# Altium schematic symbol library SparkFun-Retired.SCHLIB: 389 symbols (part 1 of 4)
Pins are listed as number, name and electrical type; pins without a type are passive.

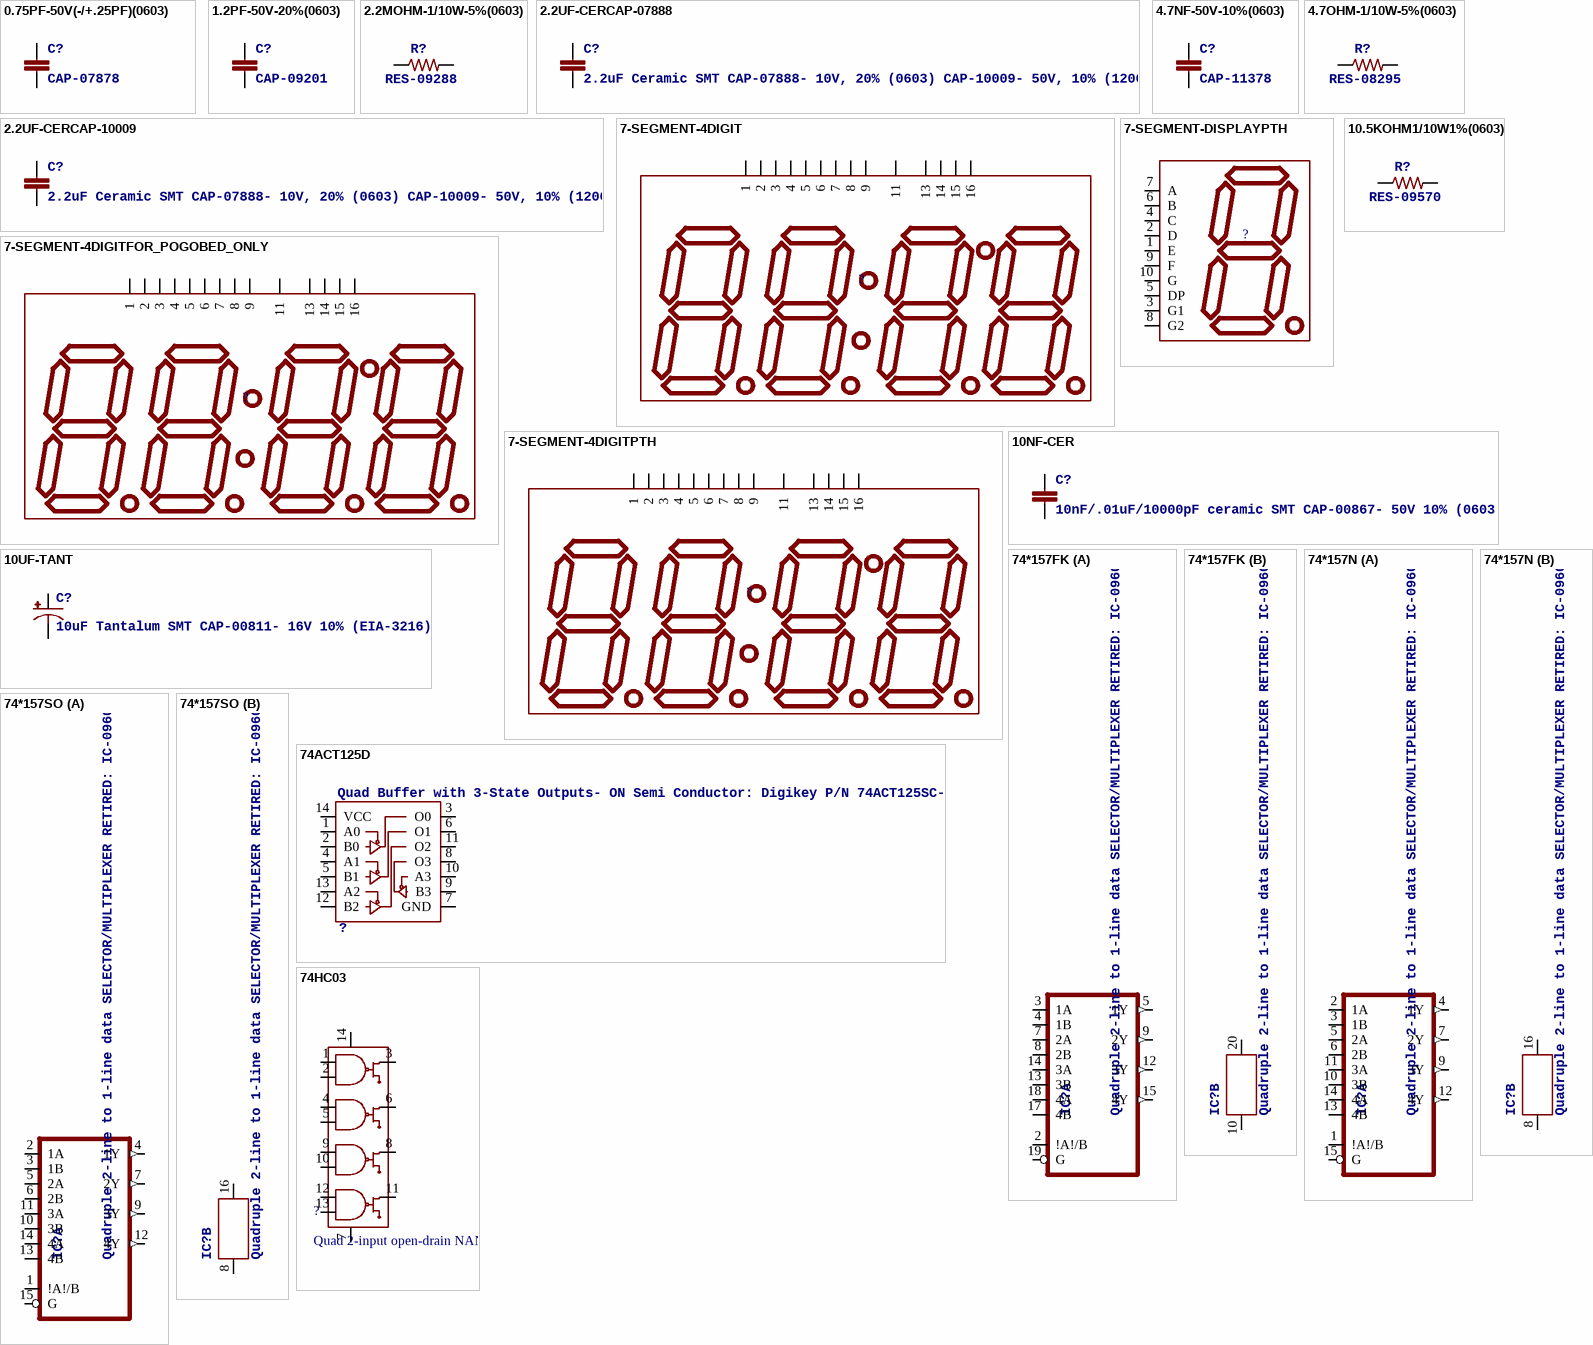
[diagram p0: symbols 0.75PF-50V(-/+.25PF)(0603) to 74HC03]

## 0.75PF-50V(-/+.25PF)(0603)
designator C?, comment CAP-07878
PROD_ID: CAP-07878
footprint 0603
pins: 1, 2

## 1.2PF-50V-20%(0603)
designator C?, comment CAP-09201
PROD_ID: CAP-09201
footprint 0603
pins: 1, 2

## 2.2MOHM-1/10W-5%(0603)
designator R?, comment RES-09288
PROD_ID: RES-09288
footprint 0603
pins: 1, 2

## 2.2UF-CERCAP-07888
designator C?, comment 2.2uF Ceramic SMT CAP-07888- 10V, 20% (0603) CAP-10009- 50V, 10% (1206)
PROD_ID: CAP-07888
footprint 0402-CAP
pins: 1, 2

## 2.2UF-CERCAP-10009
designator C?, comment 2.2uF Ceramic SMT CAP-07888- 10V, 20% (0603) CAP-10009- 50V, 10% (1206)
PROD_ID: CAP-10009
footprint 1206
pins: 1, 2

## 4.7NF-50V-10%(0603)
designator C?, comment CAP-11378
PROD_ID: CAP-11378
footprint 0603
pins: 1, 2

## 4.7OHM-1/10W-5%(0603)
designator R?, comment RES-08295
PROD_ID: RES-08295
footprint 0603
pins: 1, 2

## 7-SEGMENT-4DIGIT
designator ?
footprint 7-SEGMENT-4DIGIT-YOUNGSUN
pins: 1, 2, 3, 4, 5, 6, 7, 8, 9, 11, 13, 14, 15, 16

## 7-SEGMENT-4DIGITFOR_POGOBED_ONLY
designator ?
footprint 7-SEGMENT-4DIGIT_LONGPADS_FOR_POGOBED
pins: 1, 2, 3, 4, 5, 6, 7, 8, 9, 11, 13, 14, 15, 16

## 7-SEGMENT-4DIGITPTH
designator ?
footprint 7-SEGMENT-4DIGIT
pins: 1, 2, 3, 4, 5, 6, 7, 8, 9, 11, 13, 14, 15, 16

## 7-SEGMENT-DISPLAYPTH
designator ?
footprint 7-SEGMENT-DISPLAY
pins: 1 E, 2 D, 3 G1, 4 C, 5 DP, 6 B, 7 A, 8 G2, 9 F, 10 G

## 10.5KOHM1/10W1%(0603)
designator R?, comment RES-09570
PROD_ID: RES-09570
footprint 0603
pins: 1, 2

## 10NF-CER
designator C?, comment 10nF/.01uF/10000pF ceramic SMT CAP-00867- 50V 10% (0603)
PROD_ID: CAP-00867
footprint 0402-CAP
pins: 1, 2

## 10UF-TANT
designator C?, comment 10uF Tantalum SMT CAP-00811- 16V 10% (EIA-3216)
PROD_ID: CAP-00811
footprint EIA3216
pins: A +, C -

## 74*157FK
designator IC?, comment Quadruple 2-line to 1-line data SELECTOR/MULTIPLEXER RETIRED: IC-09602
footprint LCC20
part A pins: 2 !A!/B, 3 1A, 4 1B, 5 1Y (out), 7 2A, 8 2B, 9 2Y (out), 12 3Y (out), 13 3B, 14 3A, 15 4Y (out), 17 4B, 18 4A, 19 G
part B pins: 10 P$V-, 20 P$V+

## 74*157N
designator IC?, comment Quadruple 2-line to 1-line data SELECTOR/MULTIPLEXER RETIRED: IC-09602
footprint DIP16
part A pins: 1 !A!/B, 2 1A, 3 1B, 4 1Y (out), 5 2A, 6 2B, 7 2Y (out), 9 3Y (out), 10 3B, 11 3A, 12 4Y (out), 13 4B, 14 4A, 15 G
part B pins: 8 P$V-, 16 P$V+

## 74*157SO
designator IC?, comment Quadruple 2-line to 1-line data SELECTOR/MULTIPLEXER RETIRED: IC-09602
footprint SO16
part A pins: 1 !A!/B, 2 1A, 3 1B, 4 1Y (out), 5 2A, 6 2B, 7 2Y (out), 9 3Y (out), 10 3B, 11 3A, 12 4Y (out), 13 4B, 14 4A, 15 G
part B pins: 8 P$V-, 16 P$V+

## 74ACT125D
designator ?, comment Quad Buffer with 3-State Outputs- ON Semi Conductor: Digikey P/N 74ACT125SC-ND
footprint SO014
pins: 1 A0, 2 B0, 3 O0, 4 A1, 5 B1, 6 O1, 7 GND, 8 O3, 9 B3, 10 A3, 11 O2, 12 B2, 13 A2, 14 VCC

## 74HC03
designator ?, comment Quad 2-input open-drain NAND 2-5V operating voltage Some part numbers may include a clamping diode from OD output to VCC; check datasheet for specific part. We use an NXP part which does NOT have a clamping diode.   Doesn't seem to be in inventory anywhere.  We have nands but not open-drain
footprint TSSOP14
pins: 1 A1, 2 B1, 3 Y1, 4 A2, 5 B2, 6 Y2, 7 VSS, 8 Y3, 9 A3, 10 B3, 11 Y4, 12 A4, 13 B4, 14 VCC

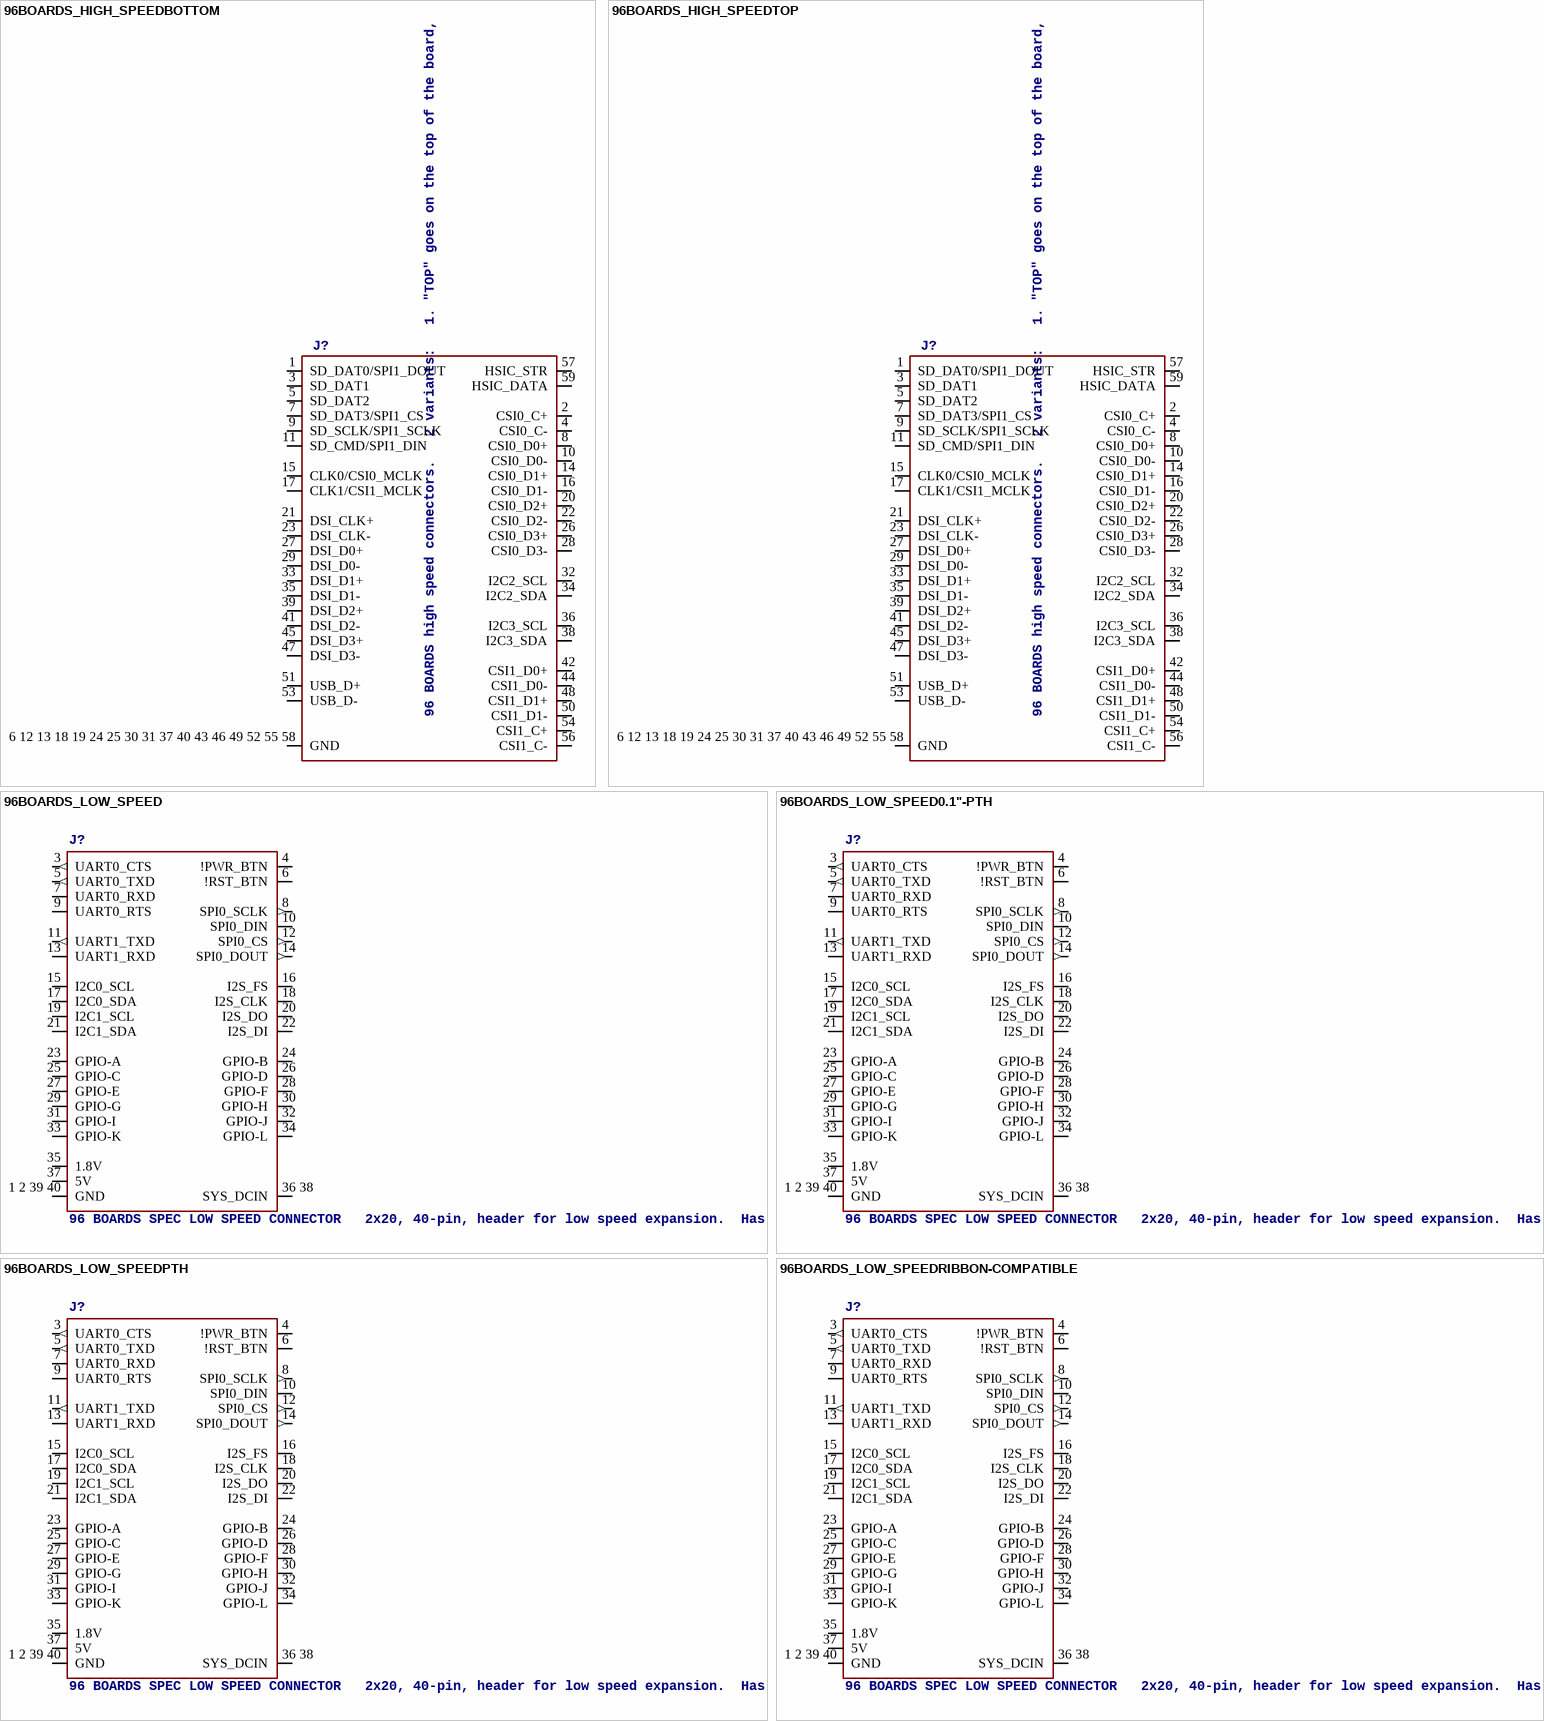
[diagram p1: symbols 96BOARDS_HIGH_SPEEDBOTTOM to 96BOARDS_LOW_SPEEDRIBBON-COMPATIBLE]

## 96BOARDS_HIGH_SPEEDBOTTOM
designator J?, comment 96 BOARDS high speed connectors.   2 variants:   1. "TOP" goes on the top of the board, called a "Receptacale" in the parlance.  Candidate parts would be FCI/Bergquist 61082-061409LF   2. "BOTTOM" goes on the bottom of a board.  Candidate parts would be FCI 61083-063409LF for 7mm board-to-board clearance, or  61083-064409LF for 8mm clearance.   If you're placing one on the bottom of a board, take care to mind the pin-1 orientation.
footprint 2X30-BERGSTAK-0.8MM-F
pins: 1 SD_DAT0/SPI1_DOUT, 2 CSI0_C+, 3 SD_DAT1, 4 CSI0_C-, 5 SD_DAT2, 6 12 13 18 19 24 25 30 31 37 40 43 46 49 52 55 58 GND, 7 SD_DAT3/SPI1_CS, 8 CSI0_D0+, 9 SD_SCLK/SPI1_SCLK, 10 CSI0_D0-, 11 SD_CMD/SPI1_DIN, 14 CSI0_D1+, 15 CLK0/CSI0_MCLK, 16 CSI0_D1-, 17 CLK1/CSI1_MCLK, 20 CSI0_D2+, 21 DSI_CLK+, 22 CSI0_D2-, 23 DSI_CLK-, 26 CSI0_D3+, 27 DSI_D0+, 28 CSI0_D3-, 29 DSI_D0-, 32 I2C2_SCL, 33 DSI_D1+, 34 I2C2_SDA, 35 DSI_D1-, 36 I2C3_SCL, 38 I2C3_SDA, 39 DSI_D2+, 41 DSI_D2-, 42 CSI1_D0+, 44 CSI1_D0-, 45 DSI_D3+, 47 DSI_D3-, 48 CSI1_D1+, 50 CSI1_D1-, 51 USB_D+, 53 USB_D-, 54 CSI1_C+, 56 CSI1_C-, 57 HSIC_STR, 59 HSIC_DATA

## 96BOARDS_HIGH_SPEEDTOP
designator J?, comment 96 BOARDS high speed connectors.   2 variants:   1. "TOP" goes on the top of the board, called a "Receptacale" in the parlance.  Candidate parts would be FCI/Bergquist 61082-061409LF   2. "BOTTOM" goes on the bottom of a board.  Candidate parts would be FCI 61083-063409LF for 7mm board-to-board clearance, or  61083-064409LF for 8mm clearance.   If you're placing one on the bottom of a board, take care to mind the pin-1 orientation.
footprint 2X30-BERGSTAK-0.8MM-M
pins: 1 SD_DAT0/SPI1_DOUT, 2 CSI0_C+, 3 SD_DAT1, 4 CSI0_C-, 5 SD_DAT2, 6 12 13 18 19 24 25 30 31 37 40 43 46 49 52 55 58 GND, 7 SD_DAT3/SPI1_CS, 8 CSI0_D0+, 9 SD_SCLK/SPI1_SCLK, 10 CSI0_D0-, 11 SD_CMD/SPI1_DIN, 14 CSI0_D1+, 15 CLK0/CSI0_MCLK, 16 CSI0_D1-, 17 CLK1/CSI1_MCLK, 20 CSI0_D2+, 21 DSI_CLK+, 22 CSI0_D2-, 23 DSI_CLK-, 26 CSI0_D3+, 27 DSI_D0+, 28 CSI0_D3-, 29 DSI_D0-, 32 I2C2_SCL, 33 DSI_D1+, 34 I2C2_SDA, 35 DSI_D1-, 36 I2C3_SCL, 38 I2C3_SDA, 39 DSI_D2+, 41 DSI_D2-, 42 CSI1_D0+, 44 CSI1_D0-, 45 DSI_D3+, 47 DSI_D3-, 48 CSI1_D1+, 50 CSI1_D1-, 51 USB_D+, 53 USB_D-, 54 CSI1_C+, 56 CSI1_C-, 57 HSIC_STR, 59 HSIC_DATA

## 96BOARDS_LOW_SPEED
designator J?, comment 96 BOARDS SPEC LOW SPEED CONNECTOR   2x20, 40-pin, header for low speed expansion.  Has UARTS, I2C, I2S, SPI and GPIO.  * 2mm-pitch variant interfaces directly with the header on a 96-boards-compliant board. * 0.1-pitch version is for applications where the header has been translated to the larger, more available 0.1" 2x20 connector.  For more details, see the spec at https://www.96boards.org
footprint 2X20-2MM-SHROUDED-RA-PTH
pins: 1 2 39 40 GND (power), 3 UART0_CTS (out), 4 !PWR_BTN, 5 UART0_TXD (out), 6 !RST_BTN, 7 UART0_RXD, 8 SPI0_SCLK (out), 9 UART0_RTS, 10 SPI0_DIN, 11 UART1_TXD (out), 12 SPI0_CS (out), 13 UART1_RXD, 14 SPI0_DOUT (out), 15 I2C0_SCL, 16 I2S_FS, 17 I2C0_SDA, 18 I2S_CLK, 19 I2C1_SCL, 20 I2S_DO, 21 I2C1_SDA, 22 I2S_DI, 23 GPIO-A, 24 GPIO-B, 25 GPIO-C, 26 GPIO-D, 27 GPIO-E, 28 GPIO-F, 29 GPIO-G, 30 GPIO-H, 31 GPIO-I, 32 GPIO-J, 33 GPIO-K, 34 GPIO-L, 35 1.8V (power), 36 38 SYS_DCIN (power), 37 5V (power)

## 96BOARDS_LOW_SPEED0.1"-PTH
designator J?, comment 96 BOARDS SPEC LOW SPEED CONNECTOR   2x20, 40-pin, header for low speed expansion.  Has UARTS, I2C, I2S, SPI and GPIO.  * 2mm-pitch variant interfaces directly with the header on a 96-boards-compliant board. * 0.1-pitch version is for applications where the header has been translated to the larger, more available 0.1" 2x20 connector.  For more details, see the spec at https://www.96boards.org
footprint 2X20-SHROUDED
pins: 1 2 39 40 GND (power), 3 UART0_CTS (out), 4 !PWR_BTN, 5 UART0_TXD (out), 6 !RST_BTN, 7 UART0_RXD, 8 SPI0_SCLK (out), 9 UART0_RTS, 10 SPI0_DIN, 11 UART1_TXD (out), 12 SPI0_CS (out), 13 UART1_RXD, 14 SPI0_DOUT (out), 15 I2C0_SCL, 16 I2S_FS, 17 I2C0_SDA, 18 I2S_CLK, 19 I2C1_SCL, 20 I2S_DO, 21 I2C1_SDA, 22 I2S_DI, 23 GPIO-A, 24 GPIO-B, 25 GPIO-C, 26 GPIO-D, 27 GPIO-E, 28 GPIO-F, 29 GPIO-G, 30 GPIO-H, 31 GPIO-I, 32 GPIO-J, 33 GPIO-K, 34 GPIO-L, 35 1.8V (power), 36 38 SYS_DCIN (power), 37 5V (power)

## 96BOARDS_LOW_SPEEDPTH
designator J?, comment 96 BOARDS SPEC LOW SPEED CONNECTOR   2x20, 40-pin, header for low speed expansion.  Has UARTS, I2C, I2S, SPI and GPIO.  * 2mm-pitch variant interfaces directly with the header on a 96-boards-compliant board. * 0.1-pitch version is for applications where the header has been translated to the larger, more available 0.1" 2x20 connector.  For more details, see the spec at https://www.96boards.org
footprint 2X20-2MM-SHROUDED-PTH
pins: 1 2 39 40 GND (power), 3 UART0_CTS (out), 4 !PWR_BTN, 5 UART0_TXD (out), 6 !RST_BTN, 7 UART0_RXD, 8 SPI0_SCLK (out), 9 UART0_RTS, 10 SPI0_DIN, 11 UART1_TXD (out), 12 SPI0_CS (out), 13 UART1_RXD, 14 SPI0_DOUT (out), 15 I2C0_SCL, 16 I2S_FS, 17 I2C0_SDA, 18 I2S_CLK, 19 I2C1_SCL, 20 I2S_DO, 21 I2C1_SDA, 22 I2S_DI, 23 GPIO-A, 24 GPIO-B, 25 GPIO-C, 26 GPIO-D, 27 GPIO-E, 28 GPIO-F, 29 GPIO-G, 30 GPIO-H, 31 GPIO-I, 32 GPIO-J, 33 GPIO-K, 34 GPIO-L, 35 1.8V (power), 36 38 SYS_DCIN (power), 37 5V (power)

## 96BOARDS_LOW_SPEEDRIBBON-COMPATIBLE
designator J?, comment 96 BOARDS SPEC LOW SPEED CONNECTOR   2x20, 40-pin, header for low speed expansion.  Has UARTS, I2C, I2S, SPI and GPIO.  * 2mm-pitch variant interfaces directly with the header on a 96-boards-compliant board. * 0.1-pitch version is for applications where the header has been translated to the larger, more available 0.1" 2x20 connector.  For more details, see the spec at https://www.96boards.org
footprint 2X20-2MM-SHROUDED-SMT-RIBBON-M
pins: 1 2 39 40 GND (power), 3 UART0_CTS (out), 4 !PWR_BTN, 5 UART0_TXD (out), 6 !RST_BTN, 7 UART0_RXD, 8 SPI0_SCLK (out), 9 UART0_RTS, 10 SPI0_DIN, 11 UART1_TXD (out), 12 SPI0_CS (out), 13 UART1_RXD, 14 SPI0_DOUT (out), 15 I2C0_SCL, 16 I2S_FS, 17 I2C0_SDA, 18 I2S_CLK, 19 I2C1_SCL, 20 I2S_DO, 21 I2C1_SDA, 22 I2S_DI, 23 GPIO-A, 24 GPIO-B, 25 GPIO-C, 26 GPIO-D, 27 GPIO-E, 28 GPIO-F, 29 GPIO-G, 30 GPIO-H, 31 GPIO-I, 32 GPIO-J, 33 GPIO-K, 34 GPIO-L, 35 1.8V (power), 36 38 SYS_DCIN (power), 37 5V (power)

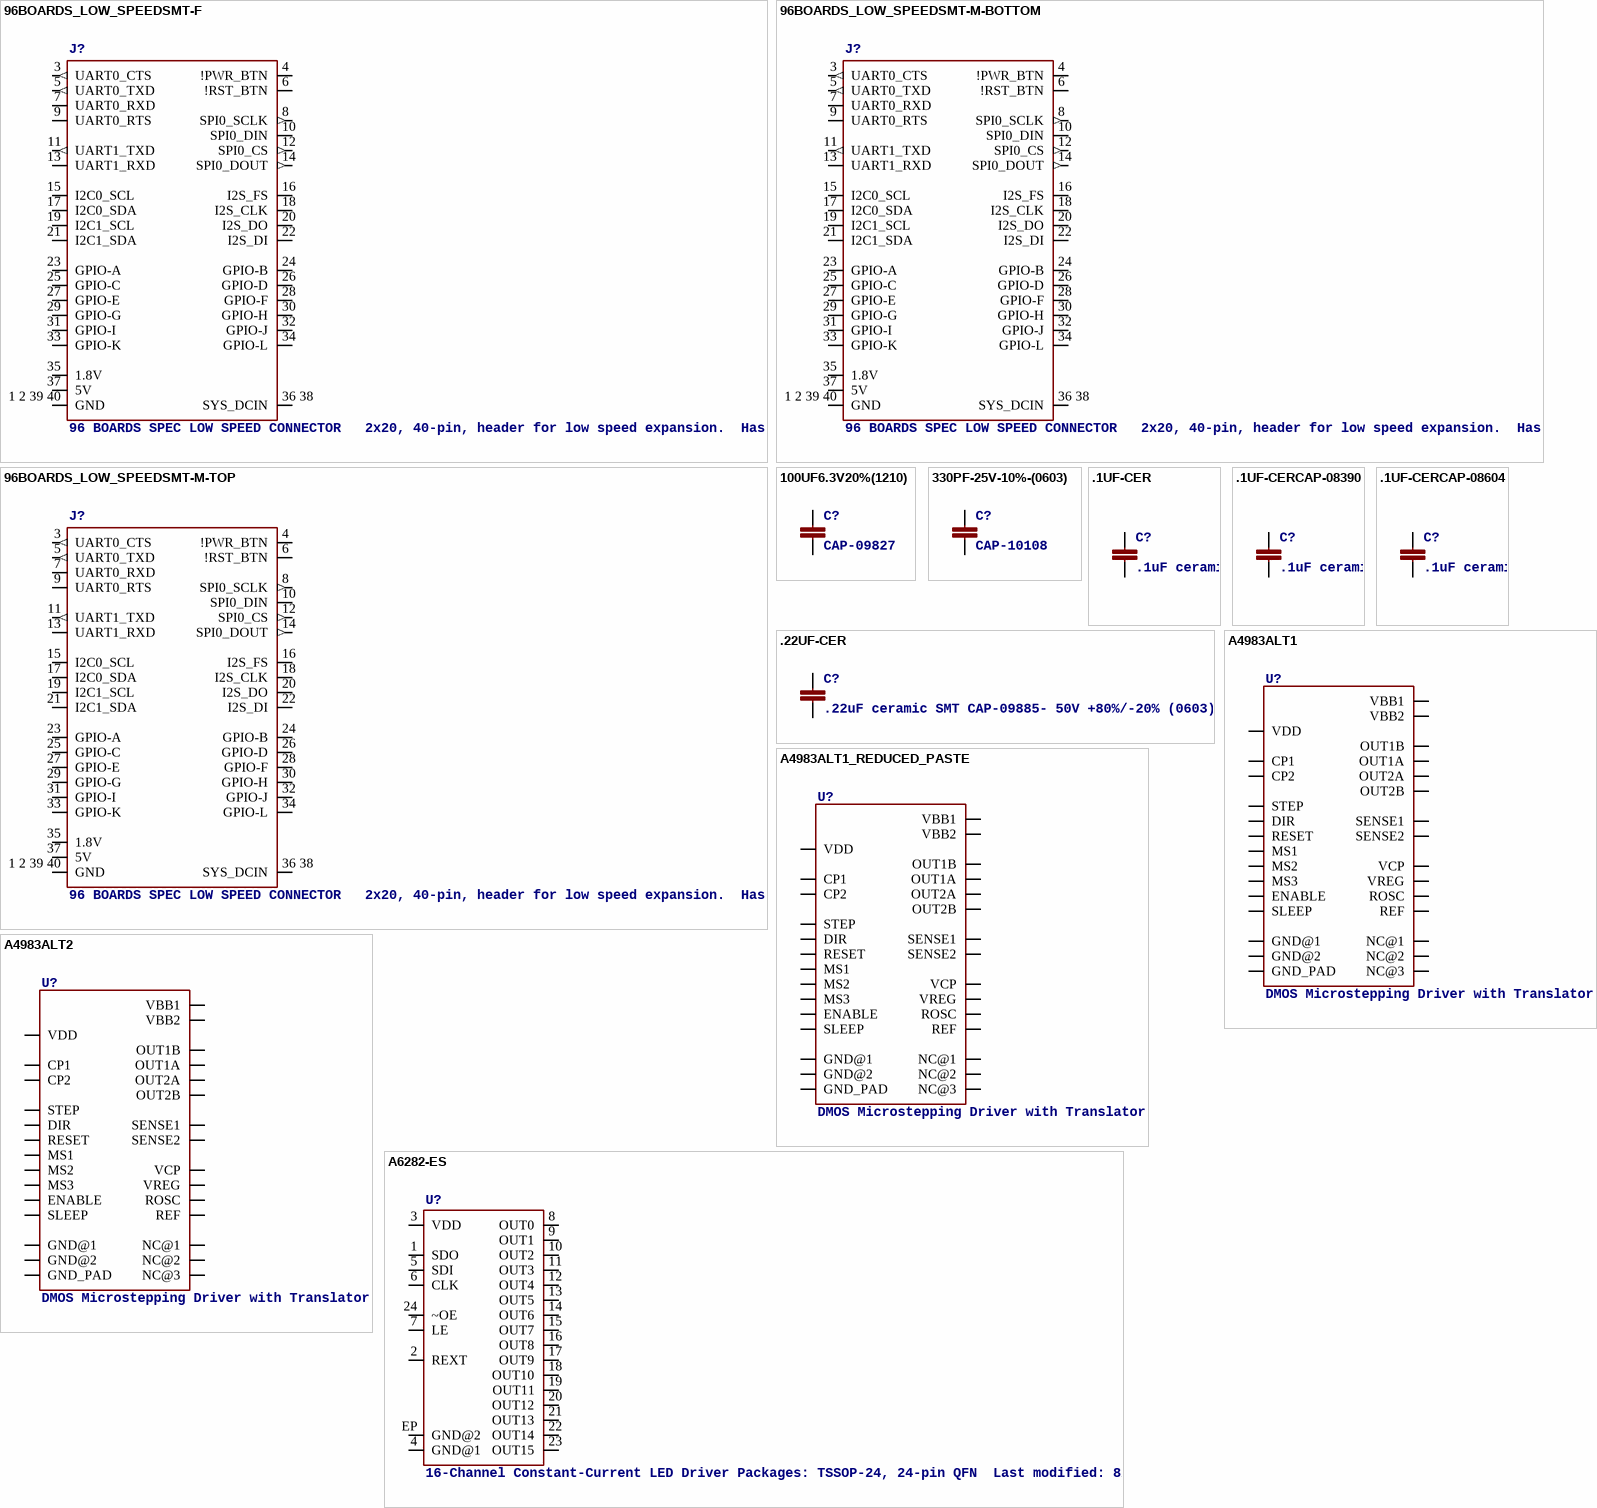
[diagram p2: symbols 96BOARDS_LOW_SPEEDSMT-F to A6282-ES]

## 96BOARDS_LOW_SPEEDSMT-F
designator J?, comment 96 BOARDS SPEC LOW SPEED CONNECTOR   2x20, 40-pin, header for low speed expansion.  Has UARTS, I2C, I2S, SPI and GPIO.  * 2mm-pitch variant interfaces directly with the header on a 96-boards-compliant board. * 0.1-pitch version is for applications where the header has been translated to the larger, more available 0.1" 2x20 connector.  For more details, see the spec at https://www.96boards.org
PROD_ID: CONN-12977
footprint 2X20-2MM-SMT-F
pins: 1 2 39 40 GND (power), 3 UART0_CTS (out), 4 !PWR_BTN, 5 UART0_TXD (out), 6 !RST_BTN, 7 UART0_RXD, 8 SPI0_SCLK (out), 9 UART0_RTS, 10 SPI0_DIN, 11 UART1_TXD (out), 12 SPI0_CS (out), 13 UART1_RXD, 14 SPI0_DOUT (out), 15 I2C0_SCL, 16 I2S_FS, 17 I2C0_SDA, 18 I2S_CLK, 19 I2C1_SCL, 20 I2S_DO, 21 I2C1_SDA, 22 I2S_DI, 23 GPIO-A, 24 GPIO-B, 25 GPIO-C, 26 GPIO-D, 27 GPIO-E, 28 GPIO-F, 29 GPIO-G, 30 GPIO-H, 31 GPIO-I, 32 GPIO-J, 33 GPIO-K, 34 GPIO-L, 35 1.8V (power), 36 38 SYS_DCIN (power), 37 5V (power)

## 96BOARDS_LOW_SPEEDSMT-M-BOTTOM
designator J?, comment 96 BOARDS SPEC LOW SPEED CONNECTOR   2x20, 40-pin, header for low speed expansion.  Has UARTS, I2C, I2S, SPI and GPIO.  * 2mm-pitch variant interfaces directly with the header on a 96-boards-compliant board. * 0.1-pitch version is for applications where the header has been translated to the larger, more available 0.1" 2x20 connector.  For more details, see the spec at https://www.96boards.org
PROD_ID: CONN-12975
footprint 2X20-2MM-SHROUDED-SMT-BOTTOM-M
pins: 1 2 39 40 GND (power), 3 UART0_CTS (out), 4 !PWR_BTN, 5 UART0_TXD (out), 6 !RST_BTN, 7 UART0_RXD, 8 SPI0_SCLK (out), 9 UART0_RTS, 10 SPI0_DIN, 11 UART1_TXD (out), 12 SPI0_CS (out), 13 UART1_RXD, 14 SPI0_DOUT (out), 15 I2C0_SCL, 16 I2S_FS, 17 I2C0_SDA, 18 I2S_CLK, 19 I2C1_SCL, 20 I2S_DO, 21 I2C1_SDA, 22 I2S_DI, 23 GPIO-A, 24 GPIO-B, 25 GPIO-C, 26 GPIO-D, 27 GPIO-E, 28 GPIO-F, 29 GPIO-G, 30 GPIO-H, 31 GPIO-I, 32 GPIO-J, 33 GPIO-K, 34 GPIO-L, 35 1.8V (power), 36 38 SYS_DCIN (power), 37 5V (power)

## 96BOARDS_LOW_SPEEDSMT-M-TOP
designator J?, comment 96 BOARDS SPEC LOW SPEED CONNECTOR   2x20, 40-pin, header for low speed expansion.  Has UARTS, I2C, I2S, SPI and GPIO.  * 2mm-pitch variant interfaces directly with the header on a 96-boards-compliant board. * 0.1-pitch version is for applications where the header has been translated to the larger, more available 0.1" 2x20 connector.  For more details, see the spec at https://www.96boards.org
PROD_ID: CONN-12975
footprint 2X20-2MM-SHROUDED-SMT-TOP-M
pins: 1 2 39 40 GND (power), 3 UART0_CTS (out), 4 !PWR_BTN, 5 UART0_TXD (out), 6 !RST_BTN, 7 UART0_RXD, 8 SPI0_SCLK (out), 9 UART0_RTS, 10 SPI0_DIN, 11 UART1_TXD (out), 12 SPI0_CS (out), 13 UART1_RXD, 14 SPI0_DOUT (out), 15 I2C0_SCL, 16 I2S_FS, 17 I2C0_SDA, 18 I2S_CLK, 19 I2C1_SCL, 20 I2S_DO, 21 I2C1_SDA, 22 I2S_DI, 23 GPIO-A, 24 GPIO-B, 25 GPIO-C, 26 GPIO-D, 27 GPIO-E, 28 GPIO-F, 29 GPIO-G, 30 GPIO-H, 31 GPIO-I, 32 GPIO-J, 33 GPIO-K, 34 GPIO-L, 35 1.8V (power), 36 38 SYS_DCIN (power), 37 5V (power)

## 100UF6.3V20%(1210)
designator C?, comment CAP-09827
PROD_ID: CAP-09827
footprint 1210
pins: 1, 2

## 330PF-25V-10%-(0603)
designator C?, comment CAP-10108
PROD_ID: CAP-10108
footprint 0603
pins: 1, 2

## .1UF-CER
designator C?, comment .1uF ceramic SMT CAP-00810- 25V +80%/-20% (0603) CAP-08390- 100V 10% (0603) CAP-08604- 25V 5% (0603)
PROD_ID: CAP-00810
footprint 0402-CAP
pins: 1, 2

## .1UF-CERCAP-08390
designator C?, comment .1uF ceramic SMT CAP-00810- 25V +80%/-20% (0603) CAP-08390- 100V 10% (0603) CAP-08604- 25V 5% (0603)
PROD_ID: CAP-08390
footprint 0402-CAP
pins: 1, 2

## .1UF-CERCAP-08604
designator C?, comment .1uF ceramic SMT CAP-00810- 25V +80%/-20% (0603) CAP-08390- 100V 10% (0603) CAP-08604- 25V 5% (0603)
PROD_ID: CAP-08604
footprint 0402-CAP
pins: 1, 2

## .22UF-CER
designator C?, comment .22uF ceramic SMT CAP-09885- 50V +80%/-20% (0603)
PROD_ID: CAP-09885
footprint 0402-CAP
pins: 1, 2

## A4983ALT1
designator U?, comment DMOS Microstepping Driver with Translator
PROD_ID: IC-09890
footprint QFN-28-5MM_ALT1
pins: P$1 OUT2B, P$2 ENABLE, P$3 GND@1 (power), P$4 CP1, P$5 CP2, P$6 VCP, P$7 NC@1, P$8 VREG, P$9 MS1, P$10 MS2, P$11 MS3, P$12 RESET, P$13 ROSC, P$14 SLEEP, P$15 VDD (power), P$16 STEP, P$17 REF, P$18 GND@2 (power), P$19 DIR, P$20 NC@2, P$21 OUT1B, P$22 VBB1, P$23 SENSE1, P$24 OUT1A, P$25 NC@3, P$26 OUT2A, P$27 SENSE2, P$28 VBB2, P$29 GND_PAD (power)

## A4983ALT1_REDUCED_PASTE
designator U?, comment DMOS Microstepping Driver with Translator
PROD_ID: IC-09890
footprint QFN-28-5MM_ALT1_REDUCED_PASTE
pins: P$1 OUT2B, P$2 ENABLE, P$3 GND@1 (power), P$4 CP1, P$5 CP2, P$6 VCP, P$7 NC@1, P$8 VREG, P$9 MS1, P$10 MS2, P$11 MS3, P$12 RESET, P$13 ROSC, P$14 SLEEP, P$15 VDD (power), P$16 STEP, P$17 REF, P$18 GND@2 (power), P$19 DIR, P$20 NC@2, P$21 OUT1B, P$22 VBB1, P$23 SENSE1, P$24 OUT1A, P$25 NC@3, P$26 OUT2A, P$27 SENSE2, P$28 VBB2, P$29 GND_PAD (power)

## A4983ALT2
designator U?, comment DMOS Microstepping Driver with Translator
footprint QFN-28-5MM_ALT2
pins: P$1 OUT2B, P$2 ENABLE, P$3 GND@1 (power), P$4 CP1, P$5 CP2, P$6 VCP, P$7 NC@1, P$8 VREG, P$9 MS1, P$10 MS2, P$11 MS3, P$12 RESET, P$13 ROSC, P$14 SLEEP, P$15 VDD (power), P$16 STEP, P$17 REF, P$18 GND@2 (power), P$19 DIR, P$20 NC@2, P$21 OUT1B, P$22 VBB1, P$23 SENSE1, P$24 OUT1A, P$25 NC@3, P$26 OUT2A, P$27 SENSE2, P$28 VBB2, P$29 GND_PAD (power)

## A6282-ES
designator U?, comment 16-Channel Constant-Current LED Driver Packages: TSSOP-24, 24-pin QFN  Last modified: 8/20/10 Unproven! RETIRED! (and wrong category)
footprint QFN-24_ALT2
pins: 1 SDO, 2 REXT, 3 VDD, 4 GND@1, 5 SDI, 6 CLK, 7 LE, 8 OUT0, 9 OUT1, 10 OUT2, 11 OUT3, 12 OUT4, 13 OUT5, 14 OUT6, 15 OUT7, 16 OUT8, 17 OUT9, 18 OUT10, 19 OUT11, 20 OUT12, 21 OUT13, 22 OUT14, 23 OUT15, 24 ~OE, EP GND@2

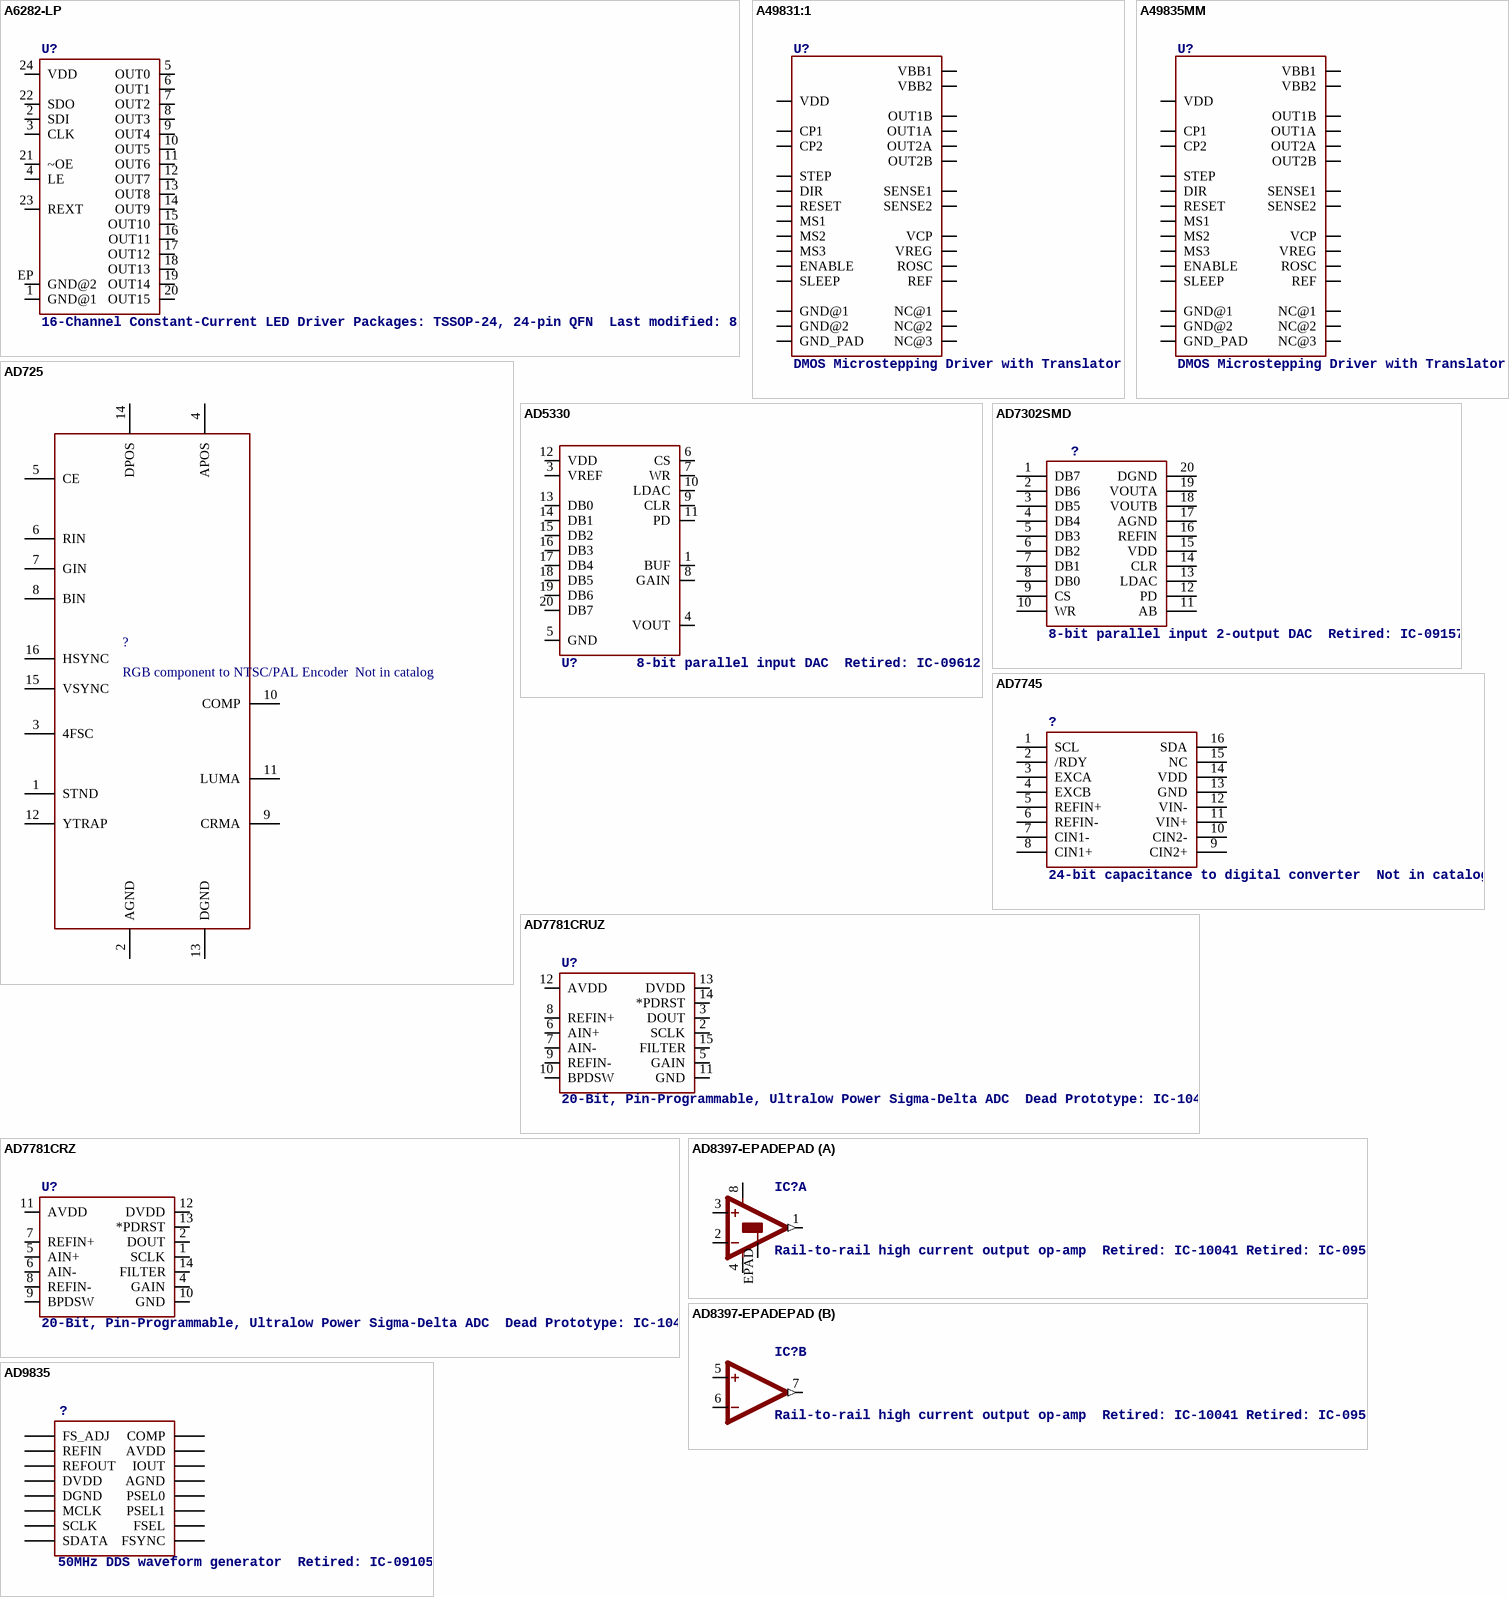
[diagram p3: symbols A6282-LP to AD9835]

## A6282-LP
designator U?, comment 16-Channel Constant-Current LED Driver Packages: TSSOP-24, 24-pin QFN  Last modified: 8/20/10 Unproven! RETIRED! (and wrong category)
footprint TSSOP-24
pins: 1 GND@1, 2 SDI, 3 CLK, 4 LE, 5 OUT0, 6 OUT1, 7 OUT2, 8 OUT3, 9 OUT4, 10 OUT5, 11 OUT6, 12 OUT7, 13 OUT8, 14 OUT9, 15 OUT10, 16 OUT11, 17 OUT12, 18 OUT13, 19 OUT14, 20 OUT15, 21 ~OE, 22 SDO, 23 REXT, 24 VDD, EP GND@2

## A49831:1
designator U?, comment DMOS Microstepping Driver with Translator
footprint QFN-28-5MM-1:1
pins: P$1 OUT2B, P$2 ENABLE, P$3 GND@1 (power), P$4 CP1, P$5 CP2, P$6 VCP, P$7 NC@1, P$8 VREG, P$9 MS1, P$10 MS2, P$11 MS3, P$12 RESET, P$13 ROSC, P$14 SLEEP, P$15 VDD (power), P$16 STEP, P$17 REF, P$18 GND@2 (power), P$19 DIR, P$20 NC@2, P$21 OUT1B, P$22 VBB1, P$23 SENSE1, P$24 OUT1A, P$25 NC@3, P$26 OUT2A, P$27 SENSE2, P$28 VBB2, P$29 GND_PAD (power)

## A49835MM
designator U?, comment DMOS Microstepping Driver with Translator
footprint QFN-28-5MM
pins: P$1 OUT2B, P$2 ENABLE, P$3 GND@1 (power), P$4 CP1, P$5 CP2, P$6 VCP, P$7 NC@1, P$8 VREG, P$9 MS1, P$10 MS2, P$11 MS3, P$12 RESET, P$13 ROSC, P$14 SLEEP, P$15 VDD (power), P$16 STEP, P$17 REF, P$18 GND@2 (power), P$19 DIR, P$20 NC@2, P$21 OUT1B, P$22 VBB1, P$23 SENSE1, P$24 OUT1A, P$25 NC@3, P$26 OUT2A, P$27 SENSE2, P$28 VBB2, P$29 GND_PAD (power)

## AD725
designator ?, comment RGB component to NTSC/PAL Encoder  Not in catalog
footprint SO16L
pins: 1 STND, 2 AGND, 3 4FSC, 4 APOS, 5 CE, 6 RIN, 7 GIN, 8 BIN, 9 CRMA, 10 COMP, 11 LUMA, 12 YTRAP, 13 DGND, 14 DPOS, 15 VSYNC, 16 HSYNC

## AD5330
designator U?, comment 8-bit parallel input DAC  Retired: IC-09612
footprint TSSOP20
pins: 1 BUF, 3 VREF, 4 VOUT, 5 GND, 6 CS, 7 WR, 8 GAIN, 9 CLR, 10 LDAC, 11 PD, 12 VDD, 13 DB0, 14 DB1, 15 DB2, 16 DB3, 17 DB4, 18 DB5, 19 DB6, 20 DB7

## AD7302SMD
designator ?, comment 8-bit parallel input 2-output DAC  Retired: IC-09157
footprint TSSOP20
pins: 1 DB7, 2 DB6, 3 DB5, 4 DB4, 5 DB3, 6 DB2, 7 DB1, 8 DB0, 9 CS, 10 WR, 11 AB, 12 PD, 13 LDAC, 14 CLR, 15 VDD, 16 REFIN, 17 AGND, 18 VOUTB, 19 VOUTA, 20 DGND

## AD7745
designator ?, comment 24-bit capacitance to digital converter  Not in catalog
footprint TSSOP16
pins: 1 SCL, 2 /RDY, 3 EXCA, 4 EXCB, 5 REFIN+, 6 REFIN-, 7 CIN1-, 8 CIN1+, 9 CIN2+, 10 CIN2-, 11 VIN+, 12 VIN-, 13 GND, 14 VDD, 15 NC, 16 SDA

## AD7781CRUZ
designator U?, comment 20-Bit, Pin-Programmable, Ultralow Power Sigma-Delta ADC  Dead Prototype: IC-10476
footprint TSSOP-16
pins: 2 SCLK, 3 DOUT, 5 GAIN, 6 AIN+, 7 AIN-, 8 REFIN+, 9 REFIN-, 10 BPDSW, 11 GND, 12 AVDD, 13 DVDD, 14 *PDRST, 15 FILTER

## AD7781CRZ
designator U?, comment 20-Bit, Pin-Programmable, Ultralow Power Sigma-Delta ADC  Dead Prototype: IC-10476
footprint SOIC-14
pins: 1 SCLK, 2 DOUT, 4 GAIN, 5 AIN+, 6 AIN-, 7 REFIN+, 8 REFIN-, 9 BPDSW, 10 GND, 11 AVDD, 12 DVDD, 13 *PDRST, 14 FILTER

## AD8397-EPADEPAD
designator IC?, comment Rail-to-rail high current output op-amp  Retired: IC-10041 Retired: IC-09592
footprint SO08-EPAD
part A pins: 1 OUT (out), 2 -IN, 3 +IN, 4 V- (power), 8 V+ (power), EPAD
part B pins: 5 +IN, 6 -IN, 7 OUT (out)

## AD9835
designator ?, comment 50MHz DDS waveform generator  Retired: IC-09105
footprint TSSOP16
pins: 1 FS_ADJ, 2 REFIN, 3 REFOUT, 4 DVDD, 5 DGND, 6 MCLK, 7 SCLK, 8 SDATA, 9 FSYNC, 10 FSEL, 11 PSEL1, 12 PSEL0, 13 AGND, 14 IOUT, 15 AVDD, 16 COMP

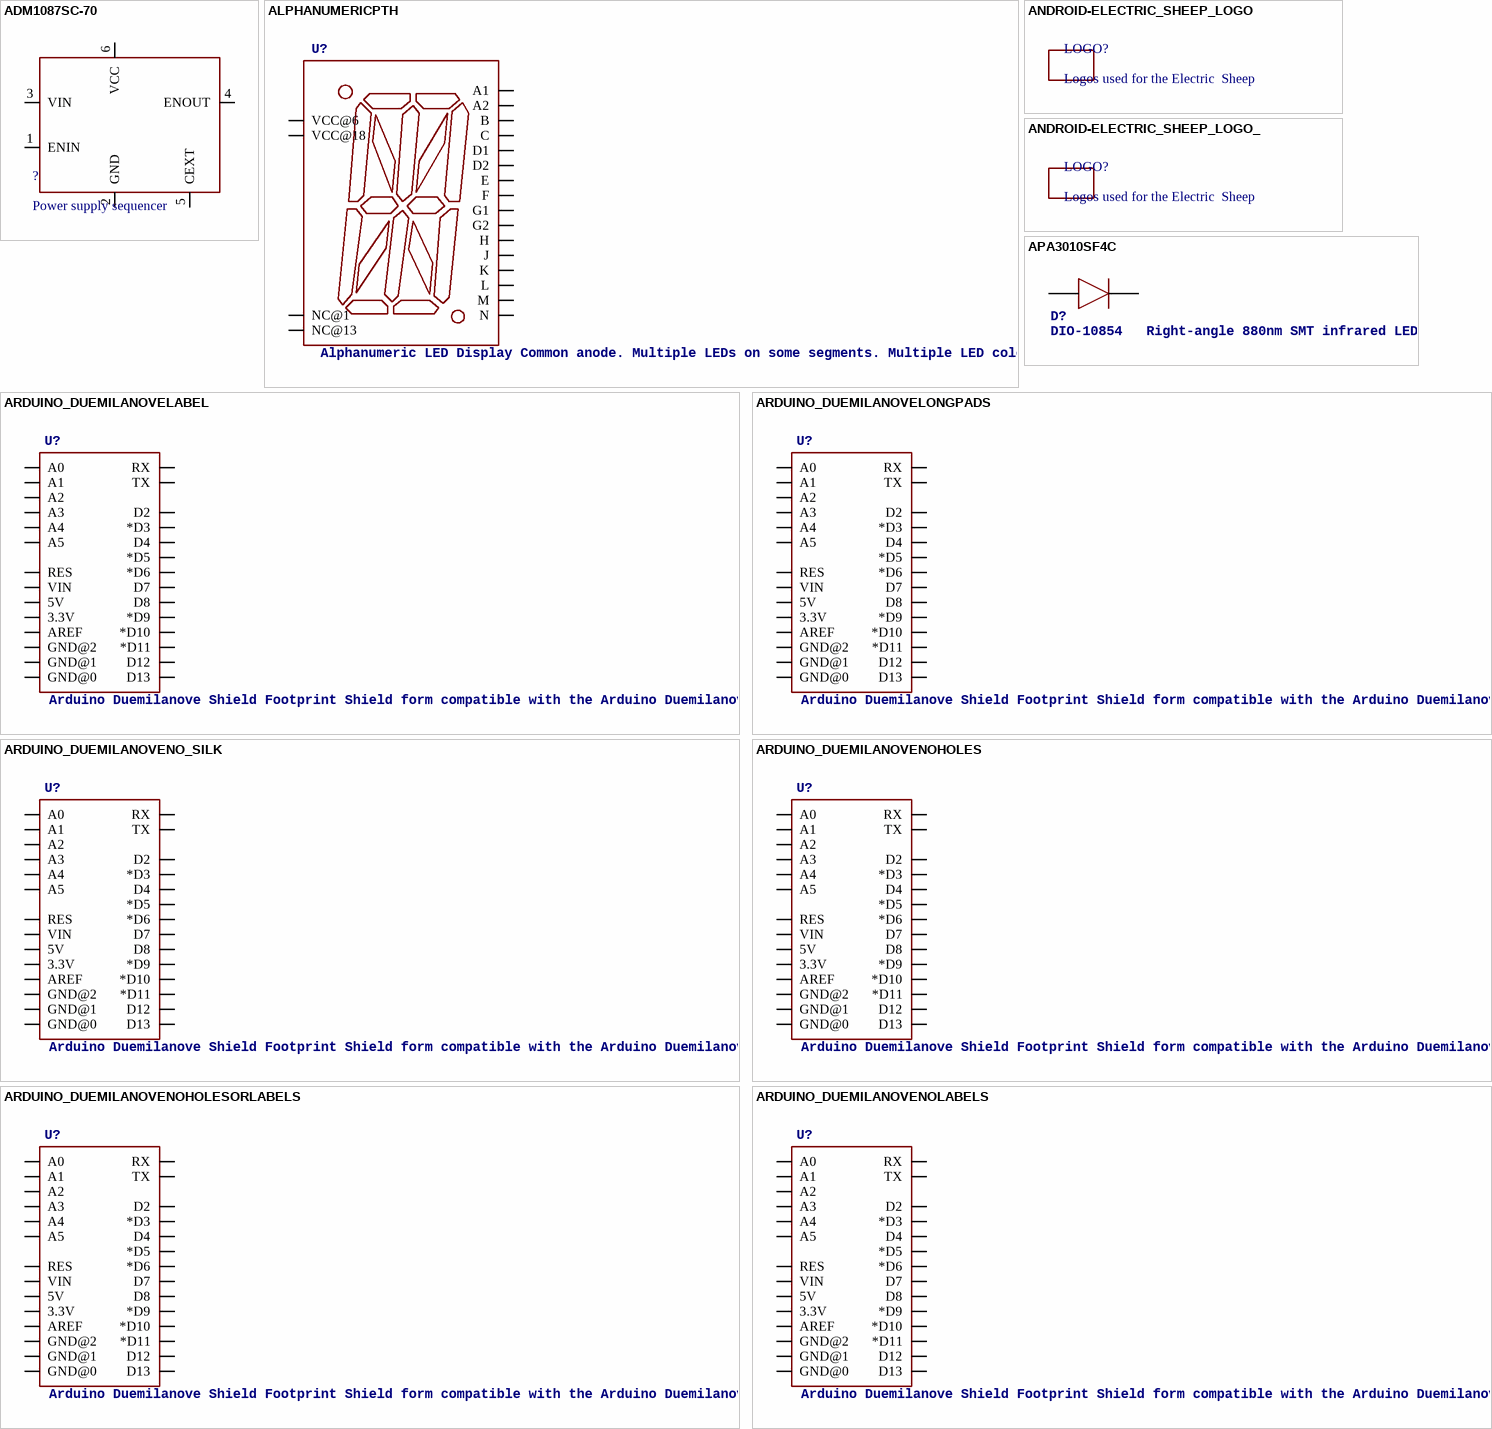
[diagram p4: symbols ADM1087SC-70 to ARDUINO_DUEMILANOVENOLABELS]

## ADM1087SC-70
designator ?, comment Power supply sequencer
footprint SC-70
pins: 1 ENIN, 2 GND, 3 VIN, 4 ENOUT, 5 CEXT, 6 VCC

## ALPHANUMERICPTH
designator U?, comment Alphanumeric LED Display Common anode. Multiple LEDs on some segments. Multiple LED colors available. Works great with A6282 driver IC. Decimal points are unfornately not connected. SKU: COM-09933.
footprint ALPHANUMERIC
pins: 1 NC@1, 2 A1, 3 H, 4 F, 6 VCC@6, 7 G1, 9 E, 10 D1, 11 N, 12 M, 13 NC@13, 14 D2, 15 L, 16 C, 18 VCC@18, 19 G2, 21 B, 22 A2, 23 K, 24 J

## ANDROID-ELECTRIC_SHEEP_LOGO
designator LOGO?, comment Logos used for the Electric  Sheep
SF_ID: DEV-10745
footprint ANDROID-ELECTRIC_SHEEP_LOGO_SMALL

## ANDROID-ELECTRIC_SHEEP_LOGO_
designator LOGO?, comment Logos used for the Electric  Sheep
footprint ANDROID-ELECTRIC_SHEEP_LOGO

## APA3010SF4C
designator D?, comment DIO-10854   Right-angle 880nm SMT infrared LED
PROD_ID: DIO-10854
footprint APA3010SF4C
pins: 1, 2

## ARDUINO_DUEMILANOVELABEL
designator U?, comment Arduino Duemilanove Shield Footprint Shield form compatible with the Arduino Duemilanove.
footprint DUEMILANOVE_SHIELD
pins: 3.3V, 5V, A0, A1, A2, A3, A4, A5, AREF, D2, D3 *D3, D4, D5 *D5, D6 *D6, D7, D8, D9 *D9, D10 *D10, D11 *D11, D12, D13, GND@0, GND@1, GND@2, RES, RX, TX, VIN

## ARDUINO_DUEMILANOVELONGPADS
designator U?, comment Arduino Duemilanove Shield Footprint Shield form compatible with the Arduino Duemilanove.
footprint DUEMILANOVE_SHIELD_LONGPADS
pins: 3.3V, 5V, A0, A1, A2, A3, A4, A5, AREF, D2, D3 *D3, D4, D5 *D5, D6 *D6, D7, D8, D9 *D9, D10 *D10, D11 *D11, D12, D13, GND@0, GND@1, GND@2, RES, RX, TX, VIN

## ARDUINO_DUEMILANOVENO_SILK
designator U?, comment Arduino Duemilanove Shield Footprint Shield form compatible with the Arduino Duemilanove.
footprint DUEMILANOVE_VIAS
pins: 3.3V, 5V, A0, A1, A2, A3, A4, A5, AREF, D2, D3 *D3, D4, D5 *D5, D6 *D6, D7, D8, D9 *D9, D10 *D10, D11 *D11, D12, D13, GND@0, GND@1, GND@2, RES, RX, TX, VIN

## ARDUINO_DUEMILANOVENOHOLES
designator U?, comment Arduino Duemilanove Shield Footprint Shield form compatible with the Arduino Duemilanove.
footprint DUEMILANOVE_SHIELD_NOHOLES
pins: 3.3V, 5V, A0, A1, A2, A3, A4, A5, AREF, D2, D3 *D3, D4, D5 *D5, D6 *D6, D7, D8, D9 *D9, D10 *D10, D11 *D11, D12, D13, GND@0, GND@1, GND@2, RES, RX, TX, VIN

## ARDUINO_DUEMILANOVENOHOLESORLABELS
designator U?, comment Arduino Duemilanove Shield Footprint Shield form compatible with the Arduino Duemilanove.
footprint DUEMILANOVE_SHIELD_NOHOLES_NOLABELS
pins: 3.3V, 5V, A0, A1, A2, A3, A4, A5, AREF, D2, D3 *D3, D4, D5 *D5, D6 *D6, D7, D8, D9 *D9, D10 *D10, D11 *D11, D12, D13, GND@0, GND@1, GND@2, RES, RX, TX, VIN

## ARDUINO_DUEMILANOVENOLABELS
designator U?, comment Arduino Duemilanove Shield Footprint Shield form compatible with the Arduino Duemilanove.
footprint DUEMILANOVE_SHIELD_NOLABELS
pins: 3.3V, 5V, A0, A1, A2, A3, A4, A5, AREF, D2, D3 *D3, D4, D5 *D5, D6 *D6, D7, D8, D9 *D9, D10 *D10, D11 *D11, D12, D13, GND@0, GND@1, GND@2, RES, RX, TX, VIN

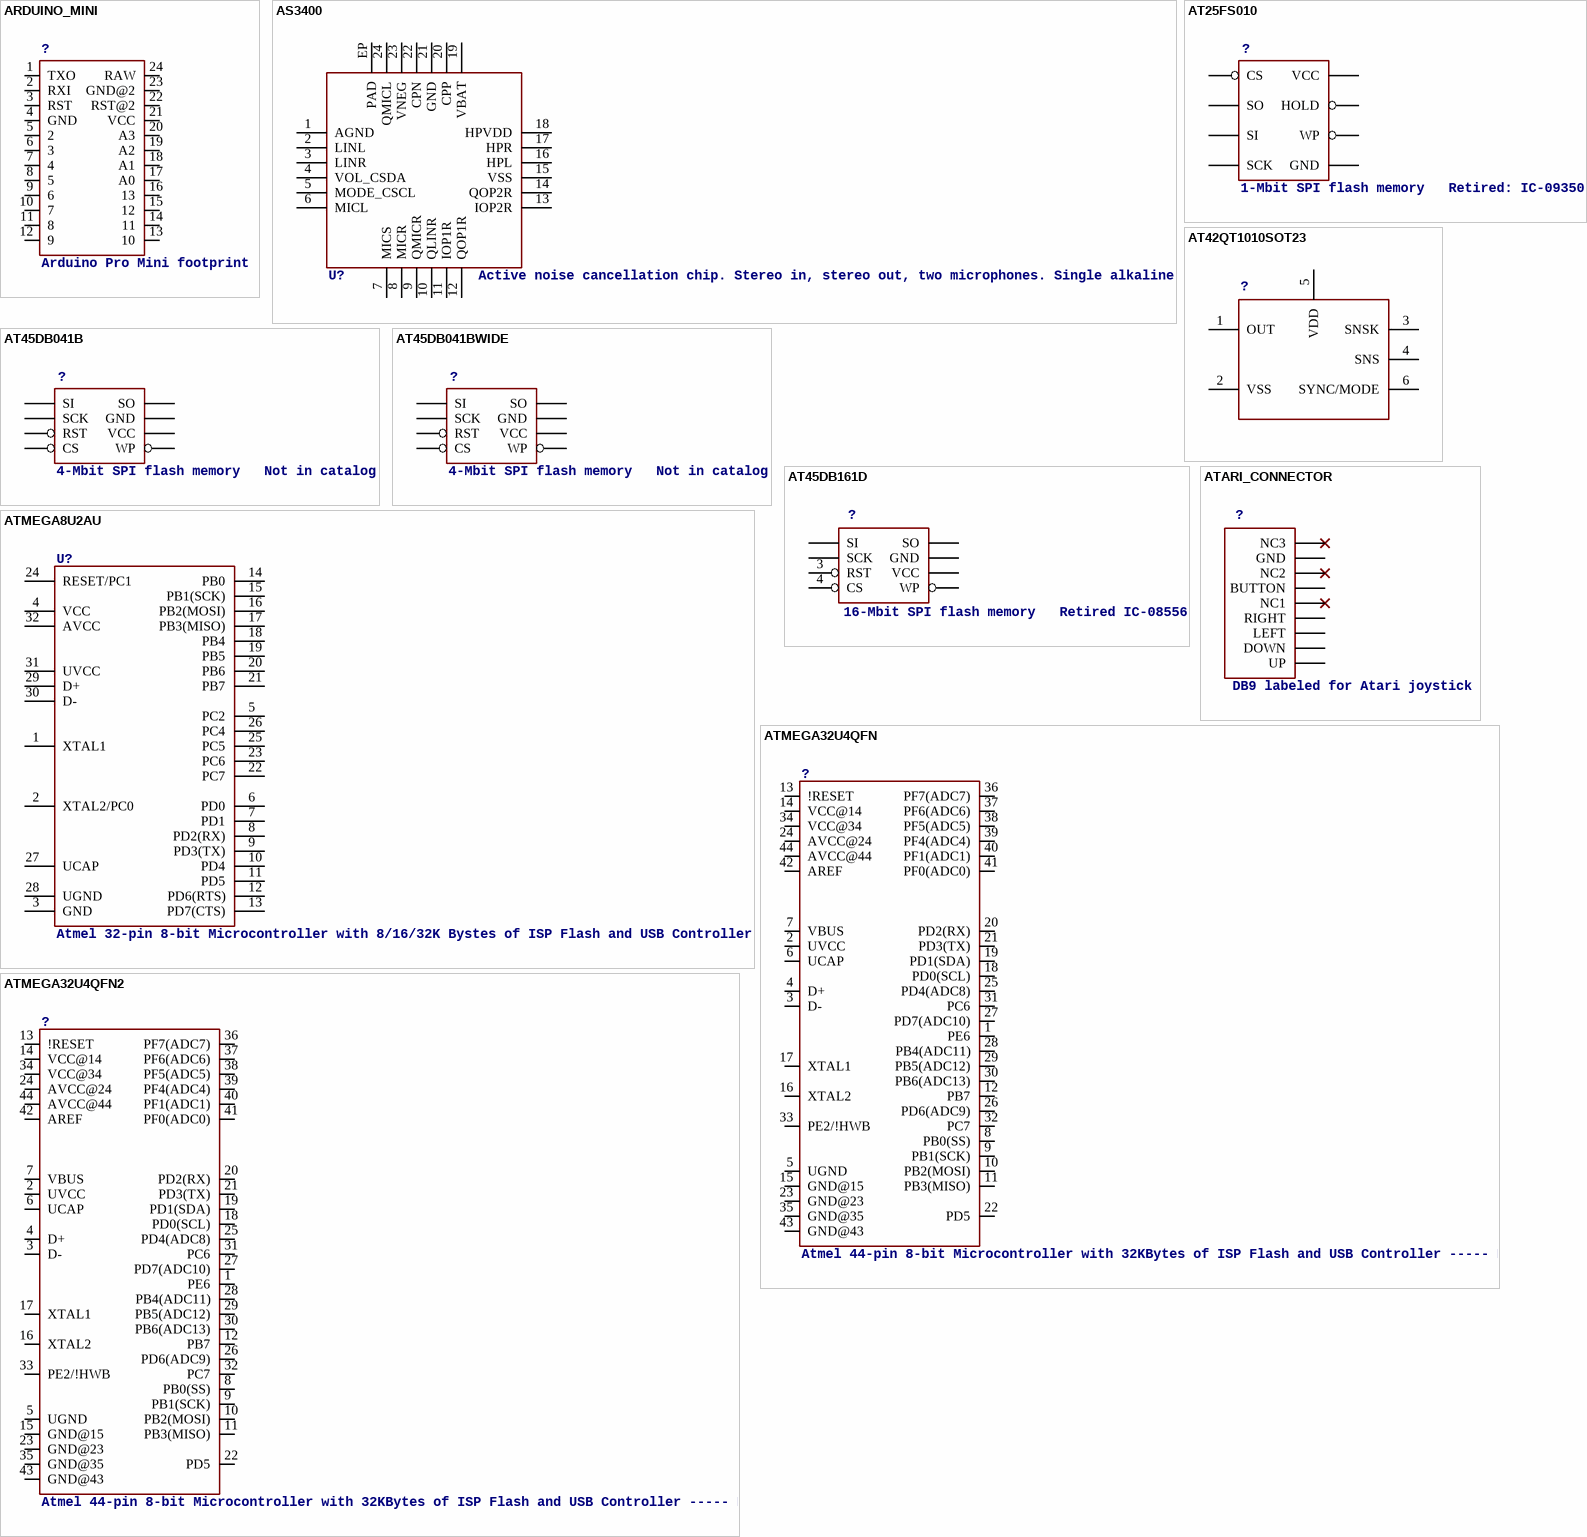
[diagram p5: symbols ARDUINO_MINI to ATMEGA32U4QFN2]

## ARDUINO_MINI
designator ?, comment Arduino Pro Mini footprint
footprint ARDUINO_MINI
pins: 1 TXO, 2 RXI, 3 RST, 4 GND, 5 2, 6 3, 7 4, 8 5, 9 6, 10 7, 11 8, 12 9, 13 10, 14 11, 15 12, 16 13, 17 A0, 18 A1, 19 A2, 20 A3, 21 VCC, 22 RST@2, 23 GND@2, 24 RAW

## AS3400
designator U?, comment Active noise cancellation chip. Stereo in, stereo out, two microphones. Single alkaline cell power. QFN-24 w/exposed pad.  Dead Prototype: IC-10703
footprint QFN-24_ALT2
pins: 1 AGND, 2 LINL, 3 LINR, 4 VOL_CSDA, 5 MODE_CSCL, 6 MICL, 7 MICS, 8 MICR, 9 QMICR, 10 QLINR, 11 IOP1R, 12 QOP1R, 13 IOP2R, 14 QOP2R, 15 VSS, 16 HPL, 17 HPR, 18 HPVDD, 19 VBAT, 20 CPP, 21 GND, 22 CPN, 23 VNEG, 24 QMICL, EP PAD

## AT25FS010
designator ?, comment 1-Mbit SPI flash memory   Retired: IC-09350
footprint SO08WIDE
pins: 1 CS, 2 SO, 3 WP, 4 GND, 5 SI, 6 SCK, 7 HOLD, 8 VCC

## AT42QT1010SOT23
designator ?
footprint SOT23-6
pins: 1 OUT, 2 VSS, 3 SNSK, 4 SNS, 5 VDD, 6 SYNC/MODE

## AT45DB041B
designator ?, comment 4-Mbit SPI flash memory   Not in catalog
footprint SO08
pins: 1 SI, 2 SCK, 3 RST, 4 CS, 5 WP, 6 VCC, 7 GND, 8 SO

## AT45DB041BWIDE
designator ?, comment 4-Mbit SPI flash memory   Not in catalog
footprint SO08WIDE
pins: 1 SI, 2 SCK, 3 RST, 4 CS, 5 WP, 6 VCC, 7 GND, 8 SO

## AT45DB161D
designator ?, comment 16-Mbit SPI flash memory   Retired IC-08556
footprint SO08-EIAJ
pins: 1 SI, 2 SCK, 3 RST, 4 CS, 5 WP, 6 VCC, 7 GND, 8 SO

## ATARI_CONNECTOR
designator ?, comment DB9 labeled for Atari joystick
footprint ATARI_CONNECTOR
pins: P$1 BUTTON, P$2 NC2, P$3 GND, P$4 NC3, P$5 UP, P$6 DOWN, P$7 LEFT, P$8 RIGHT, P$9 NC1

## ATMEGA8U2AU
designator U?, comment Atmel 32-pin 8-bit Microcontroller with 8/16/32K Bystes of ISP Flash and USB Controller. ATmega8U2, ATmega16U2, and ATmega32U2    Datasheet SparkFun Products  Storefront component: ATMEGA8U2-AU (COM-13703)
PROD_ID: IC-10104
footprint TQFP32-08_MCU
pins: 1 XTAL1, 2 XTAL2/PC0, 3 GND, 4 VCC, 5 PC2, 6 PD0, 7 PD1, 8 PD2(RX), 9 PD3(TX), 10 PD4, 11 PD5, 12 PD6(RTS), 13 PD7(CTS), 14 PB0, 15 PB1(SCK), 16 PB2(MOSI), 17 PB3(MISO), 18 PB4, 19 PB5, 20 PB6, 21 PB7, 22 PC7, 23 PC6, 24 RESET/PC1, 25 PC5, 26 PC4, 27 UCAP, 28 UGND, 29 D+, 30 D-, 31 UVCC, 32 AVCC

## ATMEGA32U4QFN
designator ?, comment Atmel 44-pin 8-bit Microcontroller with 32KBytes of ISP Flash and USB Controller ----- Please use the QFN-44-NOPAD_1:1 package for the footprint of all boards using a 32U4. Route traces directly away from the pads as much as possible.
footprint SPARKFUN-DIGITALIC_QFN-44
pins: 1 PE6, 2 UVCC, 3 D-, 4 D+, 5 UGND, 6 UCAP, 7 VBUS, 8 PB0(SS), 9 PB1(SCK), 10 PB2(MOSI), 11 PB3(MISO), 12 PB7, 13 !RESET, 14 VCC@14, 15 GND@15, 16 XTAL2, 17 XTAL1, 18 PD0(SCL), 19 PD1(SDA), 20 PD2(RX), 21 PD3(TX), 22 PD5, 23 GND@23, 24 AVCC@24, 25 PD4(ADC8), 26 PD6(ADC9), 27 PD7(ADC10), 28 PB4(ADC11), 29 PB5(ADC12), 30 PB6(ADC13), 31 PC6, 32 PC7, 33 PE2/!HWB, 34 VCC@34, 35 GND@35, 36 PF7(ADC7), 37 PF6(ADC6), 38 PF5(ADC5), 39 PF4(ADC4), 40 PF1(ADC1), 41 PF0(ADC0), 42 AREF, 43 GND@43, 44 AVCC@44

## ATMEGA32U4QFN2
designator ?, comment Atmel 44-pin 8-bit Microcontroller with 32KBytes of ISP Flash and USB Controller ----- Please use the QFN-44-NOPAD_1:1 package for the footprint of all boards using a 32U4. Route traces directly away from the pads as much as possible.
footprint SPARKFUN-DIGITALIC_QFN-44-NOPAD
pins: 1 PE6, 2 UVCC, 3 D-, 4 D+, 5 UGND, 6 UCAP, 7 VBUS, 8 PB0(SS), 9 PB1(SCK), 10 PB2(MOSI), 11 PB3(MISO), 12 PB7, 13 !RESET, 14 VCC@14, 15 GND@15, 16 XTAL2, 17 XTAL1, 18 PD0(SCL), 19 PD1(SDA), 20 PD2(RX), 21 PD3(TX), 22 PD5, 23 GND@23, 24 AVCC@24, 25 PD4(ADC8), 26 PD6(ADC9), 27 PD7(ADC10), 28 PB4(ADC11), 29 PB5(ADC12), 30 PB6(ADC13), 31 PC6, 32 PC7, 33 PE2/!HWB, 34 VCC@34, 35 GND@35, 36 PF7(ADC7), 37 PF6(ADC6), 38 PF5(ADC5), 39 PF4(ADC4), 40 PF1(ADC1), 41 PF0(ADC0), 42 AREF, 43 GND@43, 44 AVCC@44

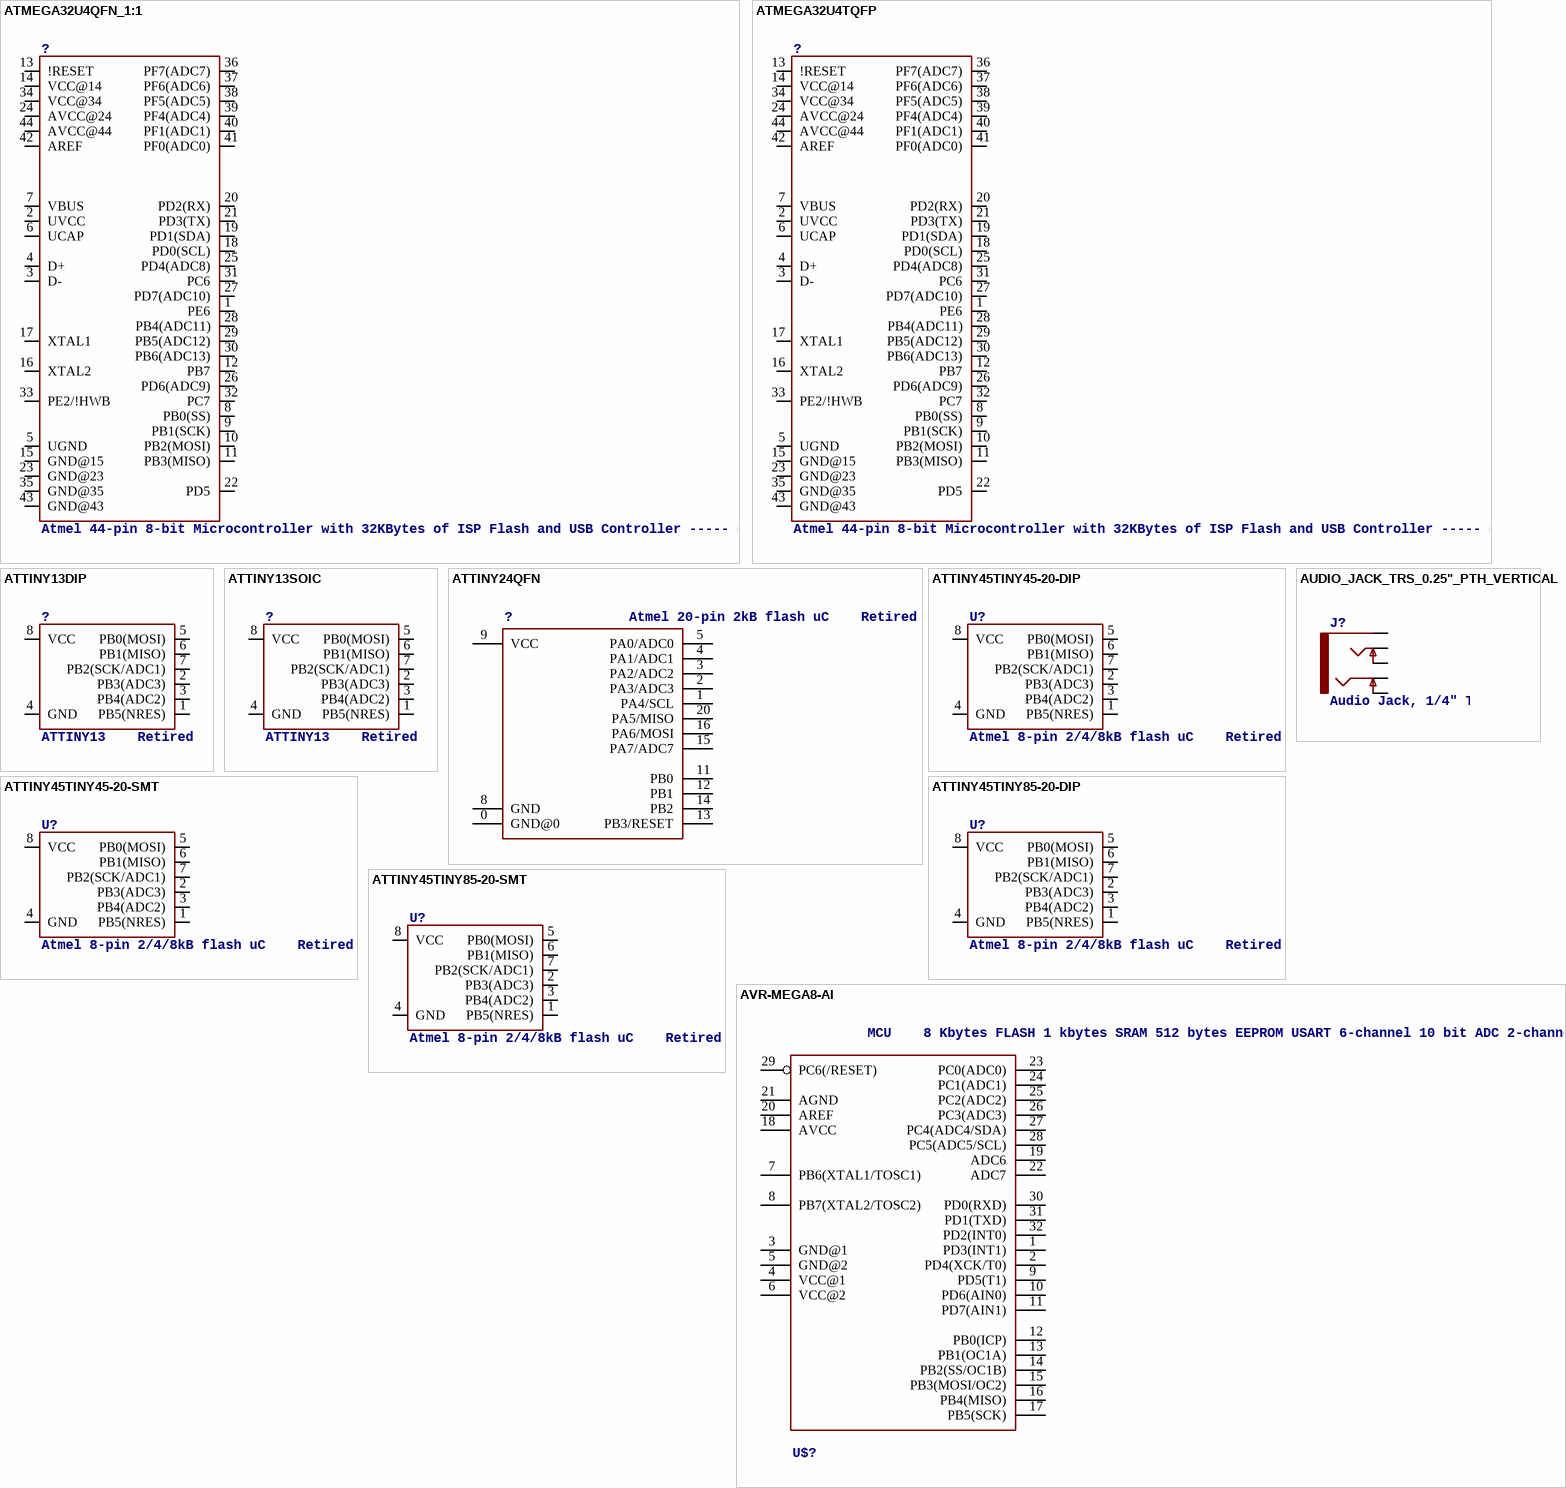
[diagram p6: symbols ATMEGA32U4QFN_1:1 to AVR-MEGA8-AI]

## ATMEGA32U4QFN_1:1
designator ?, comment Atmel 44-pin 8-bit Microcontroller with 32KBytes of ISP Flash and USB Controller ----- Please use the QFN-44-NOPAD_1:1 package for the footprint of all boards using a 32U4. Route traces directly away from the pads as much as possible.
footprint QFN-44-NOPAD_1:1
pins: 1 PE6, 2 UVCC, 3 D-, 4 D+, 5 UGND, 6 UCAP, 7 VBUS, 8 PB0(SS), 9 PB1(SCK), 10 PB2(MOSI), 11 PB3(MISO), 12 PB7, 13 !RESET, 14 VCC@14, 15 GND@15, 16 XTAL2, 17 XTAL1, 18 PD0(SCL), 19 PD1(SDA), 20 PD2(RX), 21 PD3(TX), 22 PD5, 23 GND@23, 24 AVCC@24, 25 PD4(ADC8), 26 PD6(ADC9), 27 PD7(ADC10), 28 PB4(ADC11), 29 PB5(ADC12), 30 PB6(ADC13), 31 PC6, 32 PC7, 33 PE2/!HWB, 34 VCC@34, 35 GND@35, 36 PF7(ADC7), 37 PF6(ADC6), 38 PF5(ADC5), 39 PF4(ADC4), 40 PF1(ADC1), 41 PF0(ADC0), 42 AREF, 43 GND@43, 44 AVCC@44

## ATMEGA32U4TQFP
designator ?, comment Atmel 44-pin 8-bit Microcontroller with 32KBytes of ISP Flash and USB Controller ----- Please use the QFN-44-NOPAD_1:1 package for the footprint of all boards using a 32U4. Route traces directly away from the pads as much as possible.
PROD_ID: IC-11161
footprint SPARKFUN-DIGITALIC_TQFP44
pins: 1 PE6, 2 UVCC, 3 D-, 4 D+, 5 UGND, 6 UCAP, 7 VBUS, 8 PB0(SS), 9 PB1(SCK), 10 PB2(MOSI), 11 PB3(MISO), 12 PB7, 13 !RESET, 14 VCC@14, 15 GND@15, 16 XTAL2, 17 XTAL1, 18 PD0(SCL), 19 PD1(SDA), 20 PD2(RX), 21 PD3(TX), 22 PD5, 23 GND@23, 24 AVCC@24, 25 PD4(ADC8), 26 PD6(ADC9), 27 PD7(ADC10), 28 PB4(ADC11), 29 PB5(ADC12), 30 PB6(ADC13), 31 PC6, 32 PC7, 33 PE2/!HWB, 34 VCC@34, 35 GND@35, 36 PF7(ADC7), 37 PF6(ADC6), 38 PF5(ADC5), 39 PF4(ADC4), 40 PF1(ADC1), 41 PF0(ADC0), 42 AREF, 43 GND@43, 44 AVCC@44

## ATTINY13DIP
designator ?, comment ATTINY13    Retired
footprint DIP08_MCU
pins: 1 PB5(NRES), 2 PB3(ADC3), 3 PB4(ADC2), 4 GND, 5 PB0(MOSI), 6 PB1(MISO), 7 PB2(SCK/ADC1), 8 VCC

## ATTINY13SOIC
designator ?, comment ATTINY13    Retired
footprint SO08_MCU
pins: 1 PB5(NRES), 2 PB3(ADC3), 3 PB4(ADC2), 4 GND, 5 PB0(MOSI), 6 PB1(MISO), 7 PB2(SCK/ADC1), 8 VCC

## ATTINY24QFN
designator ?, comment Atmel 20-pin 2kB flash uC    Retired
footprint QFN20_MCU
pins: 0 GND@0, 1 PA4/SCL, 2 PA3/ADC3, 3 PA2/ADC2, 4 PA1/ADC1, 5 PA0/ADC0, 8 GND, 9 VCC, 11 PB0, 12 PB1, 13 PB3/RESET, 14 PB2, 15 PA7/ADC7, 16 PA6/MOSI, 20 PA5/MISO

## ATTINY45TINY45-20-DIP
designator U?, comment Atmel 8-pin 2/4/8kB flash uC    Retired
PROD_ID: IC-09439
footprint DIP08_MCU
pins: 1 PB5(NRES), 2 PB3(ADC3), 3 PB4(ADC2), 4 GND, 5 PB0(MOSI), 6 PB1(MISO), 7 PB2(SCK/ADC1), 8 VCC

## ATTINY45TINY45-20-SMT
designator U?, comment Atmel 8-pin 2/4/8kB flash uC    Retired
PROD_ID: IC-08922
footprint SO08-EIAJ_MCU
pins: 1 PB5(NRES), 2 PB3(ADC3), 3 PB4(ADC2), 4 GND, 5 PB0(MOSI), 6 PB1(MISO), 7 PB2(SCK/ADC1), 8 VCC

## ATTINY45TINY85-20-DIP
designator U?, comment Atmel 8-pin 2/4/8kB flash uC    Retired
PROD_ID: IC-09445
footprint DIP08_MCU
pins: 1 PB5(NRES), 2 PB3(ADC3), 3 PB4(ADC2), 4 GND, 5 PB0(MOSI), 6 PB1(MISO), 7 PB2(SCK/ADC1), 8 VCC

## ATTINY45TINY85-20-SMT
designator U?, comment Atmel 8-pin 2/4/8kB flash uC    Retired
PROD_ID: IC-09092
footprint SO08-EIAJ_MCU
pins: 1 PB5(NRES), 2 PB3(ADC3), 3 PB4(ADC2), 4 GND, 5 PB0(MOSI), 6 PB1(MISO), 7 PB2(SCK/ADC1), 8 VCC

## AUDIO_JACK_TRS_0.25"_PTH_VERTICAL
designator J?, comment Audio Jack, 1/4" TRS jack, VERTICLEl, PTH, aka "Phono jack"       Note, this footprint is UN-proven. It has not yet been used by SparkFun on a design.
PROD_ID: COM-11152
footprint AUDIO_JACK_0.25"_TRS_PTH_VERTICAL
pins: RING, RING-NORM, SLEEVE EARTH, TIP, TIP-NORM

## AVR-MEGA8-AI
designator U$?, comment MCU    8 Kbytes FLASH 1 kbytes SRAM 512 bytes EEPROM USART 6-channel 10 bit ADC 2-channel 8 bit ADC  SparkFun Products  None.
footprint TQFP32-08_MCU
pins: 1 PD3(INT1), 2 PD4(XCK/T0), 3 GND@1, 4 VCC@1, 5 GND@2, 6 VCC@2, 7 PB6(XTAL1/TOSC1), 8 PB7(XTAL2/TOSC2), 9 PD5(T1), 10 PD6(AIN0), 11 PD7(AIN1), 12 PB0(ICP), 13 PB1(OC1A), 14 PB2(SS/OC1B), 15 PB3(MOSI/OC2), 16 PB4(MISO), 17 PB5(SCK), 18 AVCC, 19 ADC6, 20 AREF, 21 AGND, 22 ADC7, 23 PC0(ADC0), 24 PC1(ADC1), 25 PC2(ADC2), 26 PC3(ADC3), 27 PC4(ADC4/SDA), 28 PC5(ADC5/SCL), 29 PC6(/RESET), 30 PD0(RXD), 31 PD1(TXD), 32 PD2(INT0)

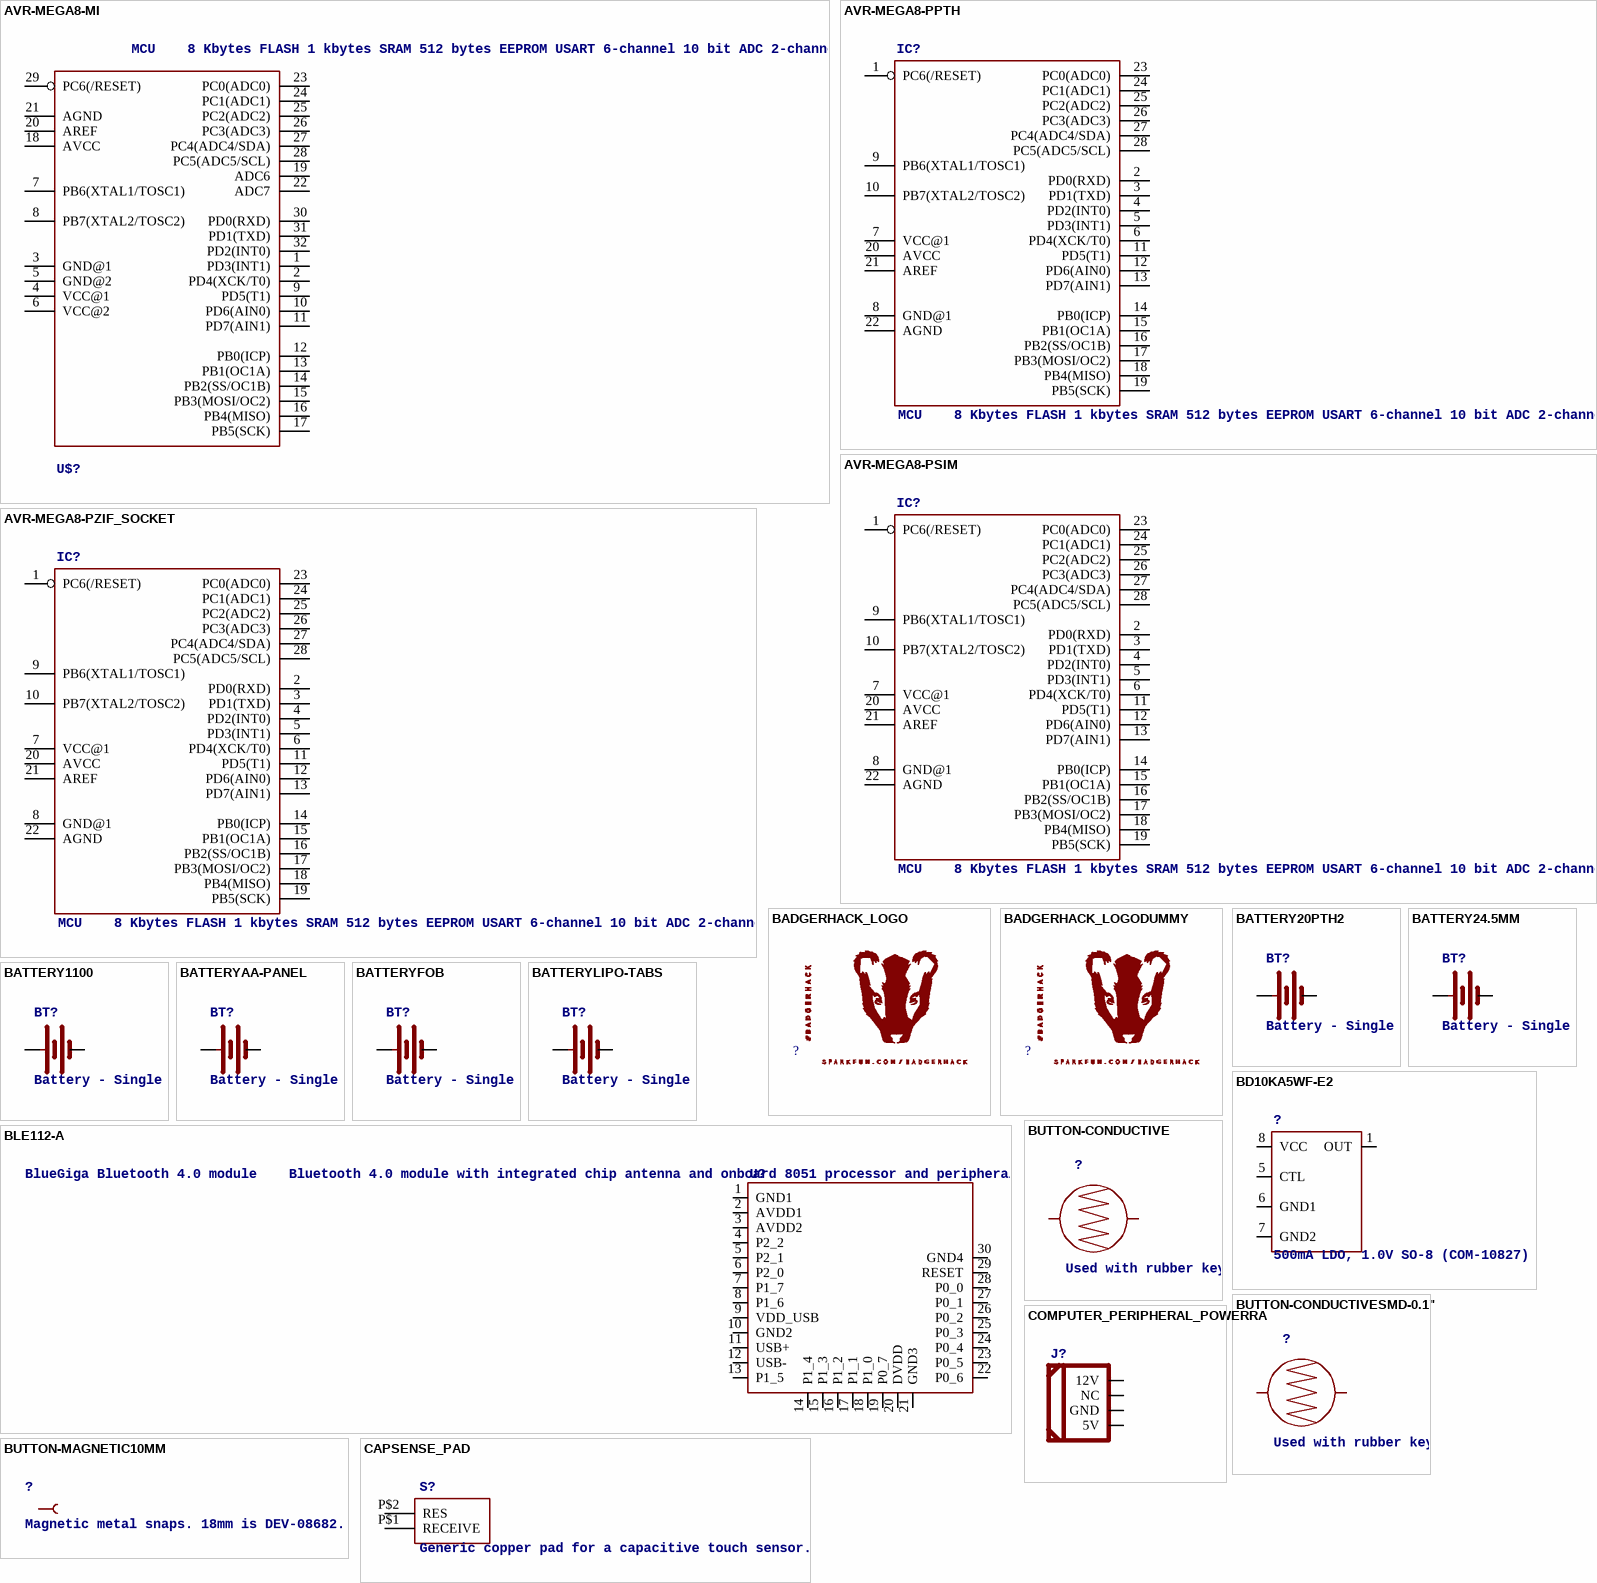
[diagram p7: symbols AVR-MEGA8-MI to COMPUTER_PERIPHERAL_POWERRA]

## AVR-MEGA8-MI
designator U$?, comment MCU    8 Kbytes FLASH 1 kbytes SRAM 512 bytes EEPROM USART 6-channel 10 bit ADC 2-channel 8 bit ADC  SparkFun Products  None.
footprint MLF32_MCU
pins: 1 PD3(INT1), 2 PD4(XCK/T0), 3 GND@1, 4 VCC@1, 5 GND@2, 6 VCC@2, 7 PB6(XTAL1/TOSC1), 8 PB7(XTAL2/TOSC2), 9 PD5(T1), 10 PD6(AIN0), 11 PD7(AIN1), 12 PB0(ICP), 13 PB1(OC1A), 14 PB2(SS/OC1B), 15 PB3(MOSI/OC2), 16 PB4(MISO), 17 PB5(SCK), 18 AVCC, 19 ADC6, 20 AREF, 21 AGND, 22 ADC7, 23 PC0(ADC0), 24 PC1(ADC1), 25 PC2(ADC2), 26 PC3(ADC3), 27 PC4(ADC4/SDA), 28 PC5(ADC5/SCL), 29 PC6(/RESET), 30 PD0(RXD), 31 PD1(TXD), 32 PD2(INT0)

## AVR-MEGA8-PPTH
designator IC?, comment MCU    8 Kbytes FLASH 1 kbytes SRAM 512 bytes EEPROM USART 6-channel 10 bit ADC 2-channel 8 bit ADC  SparkFun Products  None.
footprint DIP28_MCU
pins: 1 PC6(/RESET), 2 PD0(RXD), 3 PD1(TXD), 4 PD2(INT0), 5 PD3(INT1), 6 PD4(XCK/T0), 7 VCC@1, 8 GND@1, 9 PB6(XTAL1/TOSC1), 10 PB7(XTAL2/TOSC2), 11 PD5(T1), 12 PD6(AIN0), 13 PD7(AIN1), 14 PB0(ICP), 15 PB1(OC1A), 16 PB2(SS/OC1B), 17 PB3(MOSI/OC2), 18 PB4(MISO), 19 PB5(SCK), 20 AVCC, 21 AREF, 22 AGND, 23 PC0(ADC0), 24 PC1(ADC1), 25 PC2(ADC2), 26 PC3(ADC3), 27 PC4(ADC4/SDA), 28 PC5(ADC5/SCL)

## AVR-MEGA8-PSIM
designator IC?, comment MCU    8 Kbytes FLASH 1 kbytes SRAM 512 bytes EEPROM USART 6-channel 10 bit ADC 2-channel 8 bit ADC  SparkFun Products  None.
footprint DIP28-KIT_MCU
pins: 1 PC6(/RESET), 2 PD0(RXD), 3 PD1(TXD), 4 PD2(INT0), 5 PD3(INT1), 6 PD4(XCK/T0), 7 VCC@1, 8 GND@1, 9 PB6(XTAL1/TOSC1), 10 PB7(XTAL2/TOSC2), 11 PD5(T1), 12 PD6(AIN0), 13 PD7(AIN1), 14 PB0(ICP), 15 PB1(OC1A), 16 PB2(SS/OC1B), 17 PB3(MOSI/OC2), 18 PB4(MISO), 19 PB5(SCK), 20 AVCC, 21 AREF, 22 AGND, 23 PC0(ADC0), 24 PC1(ADC1), 25 PC2(ADC2), 26 PC3(ADC3), 27 PC4(ADC4/SDA), 28 PC5(ADC5/SCL)

## AVR-MEGA8-PZIF_SOCKET
designator IC?, comment MCU    8 Kbytes FLASH 1 kbytes SRAM 512 bytes EEPROM USART 6-channel 10 bit ADC 2-channel 8 bit ADC  SparkFun Products  None.
footprint DIL28-ZIF_SOCKET_MCU
pins: 1 PC6(/RESET), 2 PD0(RXD), 3 PD1(TXD), 4 PD2(INT0), 5 PD3(INT1), 6 PD4(XCK/T0), 7 VCC@1, 8 GND@1, 9 PB6(XTAL1/TOSC1), 10 PB7(XTAL2/TOSC2), 11 PD5(T1), 12 PD6(AIN0), 13 PD7(AIN1), 14 PB0(ICP), 15 PB1(OC1A), 16 PB2(SS/OC1B), 17 PB3(MOSI/OC2), 18 PB4(MISO), 19 PB5(SCK), 20 AVCC, 21 AREF, 22 AGND, 23 PC0(ADC0), 24 PC1(ADC1), 25 PC2(ADC2), 26 PC3(ADC3), 27 PC4(ADC4/SDA), 28 PC5(ADC5/SCL)

## BADGERHACK_LOGO
designator ?
footprint BADGER_HACK

## BADGERHACK_LOGODUMMY
designator ?
footprint DUMMY

## BATTERY20PTH2
designator BT?, comment Battery - Single Cell    A variety of battery chemistries, sizes, and footprints.   Including AA, AAA, 18650 (PRT-12895), 20mm coin cell and 12mm coin cell.20MM_4LEGS, BATT-10373
footprint BATTERY
pins: + (power), - (power)

## BATTERY24.5MM
designator BT?, comment Battery - Single Cell    A variety of battery chemistries, sizes, and footprints.   Including AA, AAA, 18650 (PRT-12895), 20mm coin cell and 12mm coin cell.20MM_4LEGS, BATT-10373
footprint BATTCON_24.5MM
pins: 1 + (power), 2 - (power)

## BATTERY1100
designator BT?, comment Battery - Single Cell    A variety of battery chemistries, sizes, and footprints.   Including AA, AAA, 18650 (PRT-12895), 20mm coin cell and 12mm coin cell.20MM_4LEGS, BATT-10373
footprint LIPO-1100MAH
pins: + (power), - (power)

## BATTERYAA-PANEL
designator BT?, comment Battery - Single Cell    A variety of battery chemistries, sizes, and footprints.   Including AA, AAA, 18650 (PRT-12895), 20mm coin cell and 12mm coin cell.20MM_4LEGS, BATT-10373
footprint BATTERY-AA-PANEL
pins: + (power), - (power)

## BATTERYFOB
designator BT?, comment Battery - Single Cell    A variety of battery chemistries, sizes, and footprints.   Including AA, AAA, 18650 (PRT-12895), 20mm coin cell and 12mm coin cell.20MM_4LEGS, BATT-10373
footprint BATTERY_20MM_PTH_COMPACT
pins: 1 + (power), 2 - (power)

## BATTERYLIPO-TABS
designator BT?, comment Battery - Single Cell    A variety of battery chemistries, sizes, and footprints.   Including AA, AAA, 18650 (PRT-12895), 20mm coin cell and 12mm coin cell.20MM_4LEGS, BATT-10373
footprint LIPO-110-TABS
pins: + (power), - (power)

## BD10KA5WF-E2
designator ?, comment 500mA LDO, 1.0V SO-8 (COM-10827)
footprint SO08WIDE
pins: 1 OUT, 5 CTL, 6 GND1, 7 GND2, 8 VCC

## BLE112-A
designator U?, comment BlueGiga Bluetooth 4.0 module    Bluetooth 4.0 module with integrated chip antenna and onboard 8051 processor and peripherals.
footprint BLE112-A
pins: 1 GND1, 2 AVDD1, 3 AVDD2, 4 P2_2, 5 P2_1, 6 P2_0, 7 P1_7, 8 P1_6, 9 VDD_USB, 10 GND2, 11 USB+, 12 USB-, 13 P1_5, 14 P1_4, 15 P1_3, 16 P1_2, 17 P1_1, 18 P1_0, 19 P0_7, 20 DVDD, 21 GND3, 22 P0_6, 23 P0_5, 24 P0_4, 25 P0_3, 26 P0_2, 27 P0_1, 28 P0_0, 29 RESET, 30 GND4

## BUTTON-CONDUCTIVE
designator ?, comment Used with rubber key pads. This one was designed and proven to work with the PolyCase Key FOB enclosures.
footprint BUTTON-CONDUCTIVE-MINI
pins: 1, 2

## BUTTON-CONDUCTIVESMD-0.1"
designator ?, comment Used with rubber key pads. This one was designed and proven to work with the PolyCase Key FOB enclosures.
footprint BUTTON-CONDUCTIVE-0.1
pins: 1, 2

## BUTTON-MAGNETIC10MM
designator ?, comment Magnetic metal snaps. 18mm is DEV-08682.
SF_SKU: DEV-08697
footprint BUTTON-10MM
pins: 1

## CAPSENSE_PAD
designator S?, comment Generic copper pad for a capacitive touch sensor.
footprint CAPSENSE_PAD
pins: P$1 RECEIVE, P$2 RES

## COMPUTER_PERIPHERAL_POWERRA
designator J?
footprint COMPUTER-PERIPHERAL-POWER-RA
pins: 5V, 12V, GND, NC

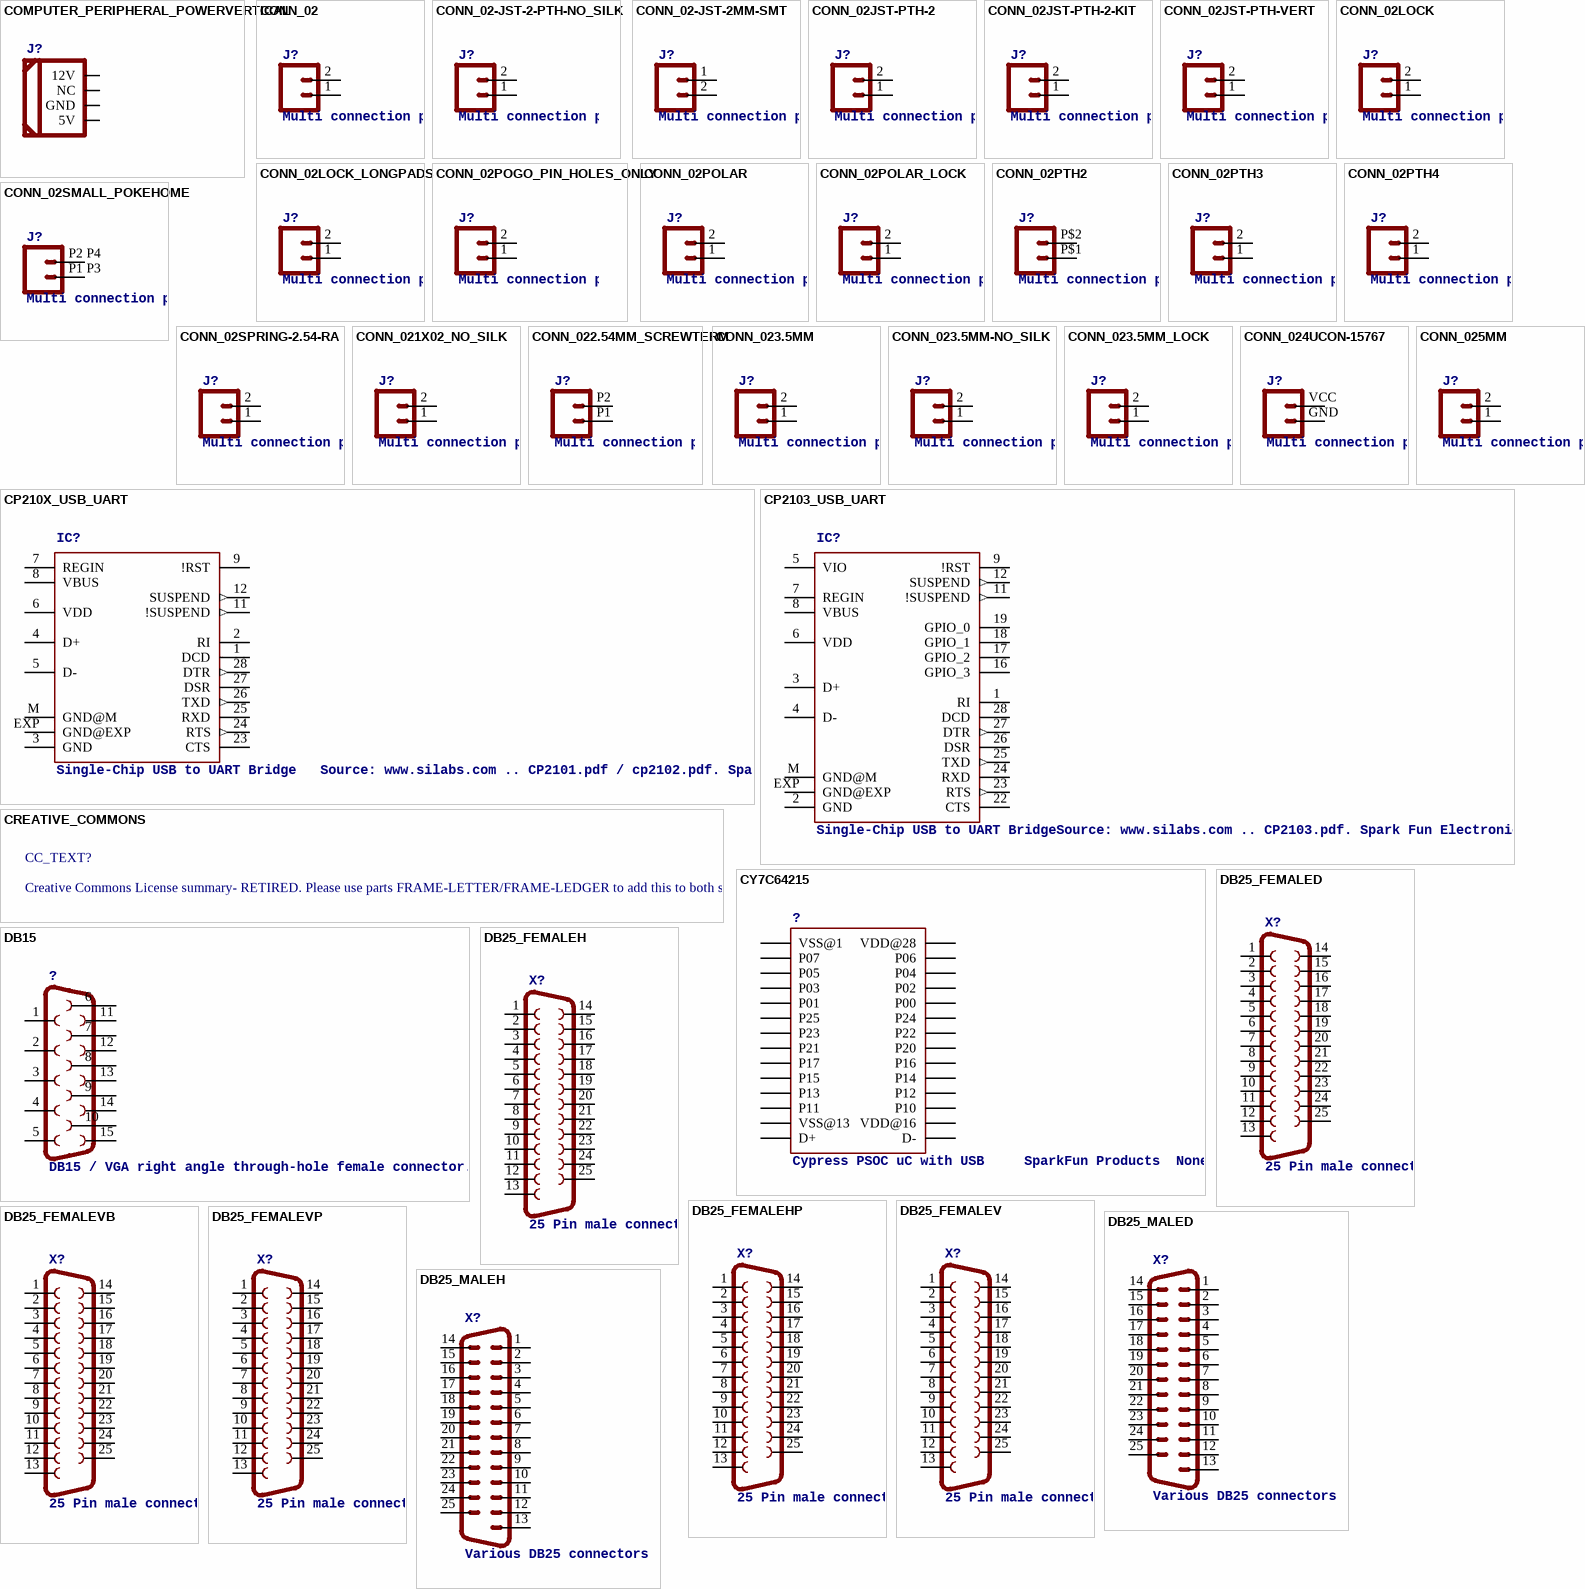
[diagram p8: symbols COMPUTER_PERIPHERAL_POWERVERTICAL to DB25_MALEH]

## COMPUTER_PERIPHERAL_POWERVERTICAL
designator J?
footprint COMPUTER-PERIPHERAL-POWER
pins: 5V, 12V, GND, NC

## CONN_02
designator J?, comment Multi connection point. Often used as Generic Header-pin footprint for 0.1 inch spaced/style header connections    On any of the 0.1 inch spaced packages, you can populate with these:  Break Away Headers - Straight (PRT-00116)   Break Away Male Headers - Right Angle (PRT-00553)   Female Headers (PRT-00115)   Break Away Headers - Machine Pin (PRT-00117)   Break Away Female Headers - Swiss Machine Pin (PRT-00743)        For SCREWTERMINALS and SPRING TERMINALS visit here:  Screw Terimnals on SparkFun.com (5mm/3.5mm/2.54mm spacing)       This device is also useful as a general connection point to wire up your design to another part of your project. Our various solder wires solder well into these plated through hole pads.  Hook-Up Wire - Assortment (Stranded, 22 AWG) (PRT-11375)   Hook-Up Wire - Assortment (Solid Core, 22 AWG) (PRT-11367)   View the entire wire category on our website here          Special notes: Molex polarized connector foot print use with: PRT-08233 with associated crimp pins and housings.  2.54_SCREWTERM for use with  PRT-10571.  3.5mm Screw Terminal footprints for  PRT-08084  5mm Screw Terminal footprints for use with PRT-08432
footprint 1X02
pins: 1, 2

## CONN_02-JST-2-PTH-NO_SILK
designator J?, comment Multi connection point. Often used as Generic Header-pin footprint for 0.1 inch spaced/style header connections    On any of the 0.1 inch spaced packages, you can populate with these:  Break Away Headers - Straight (PRT-00116)   Break Away Male Headers - Right Angle (PRT-00553)   Female Headers (PRT-00115)   Break Away Headers - Machine Pin (PRT-00117)   Break Away Female Headers - Swiss Machine Pin (PRT-00743)        For SCREWTERMINALS and SPRING TERMINALS visit here:  Screw Terimnals on SparkFun.com (5mm/3.5mm/2.54mm spacing)       This device is also useful as a general connection point to wire up your design to another part of your project. Our various solder wires solder well into these plated through hole pads.  Hook-Up Wire - Assortment (Stranded, 22 AWG) (PRT-11375)   Hook-Up Wire - Assortment (Solid Core, 22 AWG) (PRT-11367)   View the entire wire category on our website here          Special notes: Molex polarized connector foot print use with: PRT-08233 with associated crimp pins and housings.  2.54_SCREWTERM for use with  PRT-10571.  3.5mm Screw Terminal footprints for  PRT-08084  5mm Screw Terminal footprints for use with PRT-08432
footprint JST-2-PTH-NS
pins: 1, 2

## CONN_02-JST-2MM-SMT
designator J?, comment Multi connection point. Often used as Generic Header-pin footprint for 0.1 inch spaced/style header connections    On any of the 0.1 inch spaced packages, you can populate with these:  Break Away Headers - Straight (PRT-00116)   Break Away Male Headers - Right Angle (PRT-00553)   Female Headers (PRT-00115)   Break Away Headers - Machine Pin (PRT-00117)   Break Away Female Headers - Swiss Machine Pin (PRT-00743)        For SCREWTERMINALS and SPRING TERMINALS visit here:  Screw Terimnals on SparkFun.com (5mm/3.5mm/2.54mm spacing)       This device is also useful as a general connection point to wire up your design to another part of your project. Our various solder wires solder well into these plated through hole pads.  Hook-Up Wire - Assortment (Stranded, 22 AWG) (PRT-11375)   Hook-Up Wire - Assortment (Solid Core, 22 AWG) (PRT-11367)   View the entire wire category on our website here          Special notes: Molex polarized connector foot print use with: PRT-08233 with associated crimp pins and housings.  2.54_SCREWTERM for use with  PRT-10571.  3.5mm Screw Terminal footprints for  PRT-08084  5mm Screw Terminal footprints for use with PRT-08432
PROD_ID: CONN-11443
footprint JST-2-SMD
pins: 1 2, 2 1

## CONN_02JST-PTH-2
designator J?, comment Multi connection point. Often used as Generic Header-pin footprint for 0.1 inch spaced/style header connections    On any of the 0.1 inch spaced packages, you can populate with these:  Break Away Headers - Straight (PRT-00116)   Break Away Male Headers - Right Angle (PRT-00553)   Female Headers (PRT-00115)   Break Away Headers - Machine Pin (PRT-00117)   Break Away Female Headers - Swiss Machine Pin (PRT-00743)        For SCREWTERMINALS and SPRING TERMINALS visit here:  Screw Terimnals on SparkFun.com (5mm/3.5mm/2.54mm spacing)       This device is also useful as a general connection point to wire up your design to another part of your project. Our various solder wires solder well into these plated through hole pads.  Hook-Up Wire - Assortment (Stranded, 22 AWG) (PRT-11375)   Hook-Up Wire - Assortment (Solid Core, 22 AWG) (PRT-11367)   View the entire wire category on our website here          Special notes: Molex polarized connector foot print use with: PRT-08233 with associated crimp pins and housings.  2.54_SCREWTERM for use with  PRT-10571.  3.5mm Screw Terminal footprints for  PRT-08084  5mm Screw Terminal footprints for use with PRT-08432
PROD_ID: CONN-09863; SKU: PRT-09914
footprint JST-2-PTH
pins: 1, 2

## CONN_02JST-PTH-2-KIT
designator J?, comment Multi connection point. Often used as Generic Header-pin footprint for 0.1 inch spaced/style header connections    On any of the 0.1 inch spaced packages, you can populate with these:  Break Away Headers - Straight (PRT-00116)   Break Away Male Headers - Right Angle (PRT-00553)   Female Headers (PRT-00115)   Break Away Headers - Machine Pin (PRT-00117)   Break Away Female Headers - Swiss Machine Pin (PRT-00743)        For SCREWTERMINALS and SPRING TERMINALS visit here:  Screw Terimnals on SparkFun.com (5mm/3.5mm/2.54mm spacing)       This device is also useful as a general connection point to wire up your design to another part of your project. Our various solder wires solder well into these plated through hole pads.  Hook-Up Wire - Assortment (Stranded, 22 AWG) (PRT-11375)   Hook-Up Wire - Assortment (Solid Core, 22 AWG) (PRT-11367)   View the entire wire category on our website here          Special notes: Molex polarized connector foot print use with: PRT-08233 with associated crimp pins and housings.  2.54_SCREWTERM for use with  PRT-10571.  3.5mm Screw Terminal footprints for  PRT-08084  5mm Screw Terminal footprints for use with PRT-08432
footprint JST-2-PTH-KIT
pins: 1, 2

## CONN_02JST-PTH-VERT
designator J?, comment Multi connection point. Often used as Generic Header-pin footprint for 0.1 inch spaced/style header connections    On any of the 0.1 inch spaced packages, you can populate with these:  Break Away Headers - Straight (PRT-00116)   Break Away Male Headers - Right Angle (PRT-00553)   Female Headers (PRT-00115)   Break Away Headers - Machine Pin (PRT-00117)   Break Away Female Headers - Swiss Machine Pin (PRT-00743)        For SCREWTERMINALS and SPRING TERMINALS visit here:  Screw Terimnals on SparkFun.com (5mm/3.5mm/2.54mm spacing)       This device is also useful as a general connection point to wire up your design to another part of your project. Our various solder wires solder well into these plated through hole pads.  Hook-Up Wire - Assortment (Stranded, 22 AWG) (PRT-11375)   Hook-Up Wire - Assortment (Solid Core, 22 AWG) (PRT-11367)   View the entire wire category on our website here          Special notes: Molex polarized connector foot print use with: PRT-08233 with associated crimp pins and housings.  2.54_SCREWTERM for use with  PRT-10571.  3.5mm Screw Terminal footprints for  PRT-08084  5mm Screw Terminal footprints for use with PRT-08432
PROD_ID: CONN-12097
footprint JST-2-PTH-VERT
pins: 1, 2

## CONN_02LOCK
designator J?, comment Multi connection point. Often used as Generic Header-pin footprint for 0.1 inch spaced/style header connections    On any of the 0.1 inch spaced packages, you can populate with these:  Break Away Headers - Straight (PRT-00116)   Break Away Male Headers - Right Angle (PRT-00553)   Female Headers (PRT-00115)   Break Away Headers - Machine Pin (PRT-00117)   Break Away Female Headers - Swiss Machine Pin (PRT-00743)        For SCREWTERMINALS and SPRING TERMINALS visit here:  Screw Terimnals on SparkFun.com (5mm/3.5mm/2.54mm spacing)       This device is also useful as a general connection point to wire up your design to another part of your project. Our various solder wires solder well into these plated through hole pads.  Hook-Up Wire - Assortment (Stranded, 22 AWG) (PRT-11375)   Hook-Up Wire - Assortment (Solid Core, 22 AWG) (PRT-11367)   View the entire wire category on our website here          Special notes: Molex polarized connector foot print use with: PRT-08233 with associated crimp pins and housings.  2.54_SCREWTERM for use with  PRT-10571.  3.5mm Screw Terminal footprints for  PRT-08084  5mm Screw Terminal footprints for use with PRT-08432
footprint 1X02_LOCK
pins: 1, 2

## CONN_02LOCK_LONGPADS
designator J?, comment Multi connection point. Often used as Generic Header-pin footprint for 0.1 inch spaced/style header connections    On any of the 0.1 inch spaced packages, you can populate with these:  Break Away Headers - Straight (PRT-00116)   Break Away Male Headers - Right Angle (PRT-00553)   Female Headers (PRT-00115)   Break Away Headers - Machine Pin (PRT-00117)   Break Away Female Headers - Swiss Machine Pin (PRT-00743)        For SCREWTERMINALS and SPRING TERMINALS visit here:  Screw Terimnals on SparkFun.com (5mm/3.5mm/2.54mm spacing)       This device is also useful as a general connection point to wire up your design to another part of your project. Our various solder wires solder well into these plated through hole pads.  Hook-Up Wire - Assortment (Stranded, 22 AWG) (PRT-11375)   Hook-Up Wire - Assortment (Solid Core, 22 AWG) (PRT-11367)   View the entire wire category on our website here          Special notes: Molex polarized connector foot print use with: PRT-08233 with associated crimp pins and housings.  2.54_SCREWTERM for use with  PRT-10571.  3.5mm Screw Terminal footprints for  PRT-08084  5mm Screw Terminal footprints for use with PRT-08432
footprint 1X02_LOCK_LONGPADS
pins: 1, 2

## CONN_02POGO_PIN_HOLES_ONLY
designator J?, comment Multi connection point. Often used as Generic Header-pin footprint for 0.1 inch spaced/style header connections    On any of the 0.1 inch spaced packages, you can populate with these:  Break Away Headers - Straight (PRT-00116)   Break Away Male Headers - Right Angle (PRT-00553)   Female Headers (PRT-00115)   Break Away Headers - Machine Pin (PRT-00117)   Break Away Female Headers - Swiss Machine Pin (PRT-00743)        For SCREWTERMINALS and SPRING TERMINALS visit here:  Screw Terimnals on SparkFun.com (5mm/3.5mm/2.54mm spacing)       This device is also useful as a general connection point to wire up your design to another part of your project. Our various solder wires solder well into these plated through hole pads.  Hook-Up Wire - Assortment (Stranded, 22 AWG) (PRT-11375)   Hook-Up Wire - Assortment (Solid Core, 22 AWG) (PRT-11367)   View the entire wire category on our website here          Special notes: Molex polarized connector foot print use with: PRT-08233 with associated crimp pins and housings.  2.54_SCREWTERM for use with  PRT-10571.  3.5mm Screw Terminal footprints for  PRT-08084  5mm Screw Terminal footprints for use with PRT-08432
footprint 1X02_PP_HOLES_ONLY
pins: 1, 2

## CONN_02POLAR
designator J?, comment Multi connection point. Often used as Generic Header-pin footprint for 0.1 inch spaced/style header connections    On any of the 0.1 inch spaced packages, you can populate with these:  Break Away Headers - Straight (PRT-00116)   Break Away Male Headers - Right Angle (PRT-00553)   Female Headers (PRT-00115)   Break Away Headers - Machine Pin (PRT-00117)   Break Away Female Headers - Swiss Machine Pin (PRT-00743)        For SCREWTERMINALS and SPRING TERMINALS visit here:  Screw Terimnals on SparkFun.com (5mm/3.5mm/2.54mm spacing)       This device is also useful as a general connection point to wire up your design to another part of your project. Our various solder wires solder well into these plated through hole pads.  Hook-Up Wire - Assortment (Stranded, 22 AWG) (PRT-11375)   Hook-Up Wire - Assortment (Solid Core, 22 AWG) (PRT-11367)   View the entire wire category on our website here          Special notes: Molex polarized connector foot print use with: PRT-08233 with associated crimp pins and housings.  2.54_SCREWTERM for use with  PRT-10571.  3.5mm Screw Terminal footprints for  PRT-08084  5mm Screw Terminal footprints for use with PRT-08432
SF_ID: PRT-09918
footprint MOLEX-1X2
pins: 1, 2

## CONN_02POLAR_LOCK
designator J?, comment Multi connection point. Often used as Generic Header-pin footprint for 0.1 inch spaced/style header connections    On any of the 0.1 inch spaced packages, you can populate with these:  Break Away Headers - Straight (PRT-00116)   Break Away Male Headers - Right Angle (PRT-00553)   Female Headers (PRT-00115)   Break Away Headers - Machine Pin (PRT-00117)   Break Away Female Headers - Swiss Machine Pin (PRT-00743)        For SCREWTERMINALS and SPRING TERMINALS visit here:  Screw Terimnals on SparkFun.com (5mm/3.5mm/2.54mm spacing)       This device is also useful as a general connection point to wire up your design to another part of your project. Our various solder wires solder well into these plated through hole pads.  Hook-Up Wire - Assortment (Stranded, 22 AWG) (PRT-11375)   Hook-Up Wire - Assortment (Solid Core, 22 AWG) (PRT-11367)   View the entire wire category on our website here          Special notes: Molex polarized connector foot print use with: PRT-08233 with associated crimp pins and housings.  2.54_SCREWTERM for use with  PRT-10571.  3.5mm Screw Terminal footprints for  PRT-08084  5mm Screw Terminal footprints for use with PRT-08432
SF_ID: PRT-09918
footprint MOLEX-1X2_LOCK
pins: 1, 2